# Altium schematic symbol library AnalogDevices.SchLib: 130 symbols (part 4 of 5)
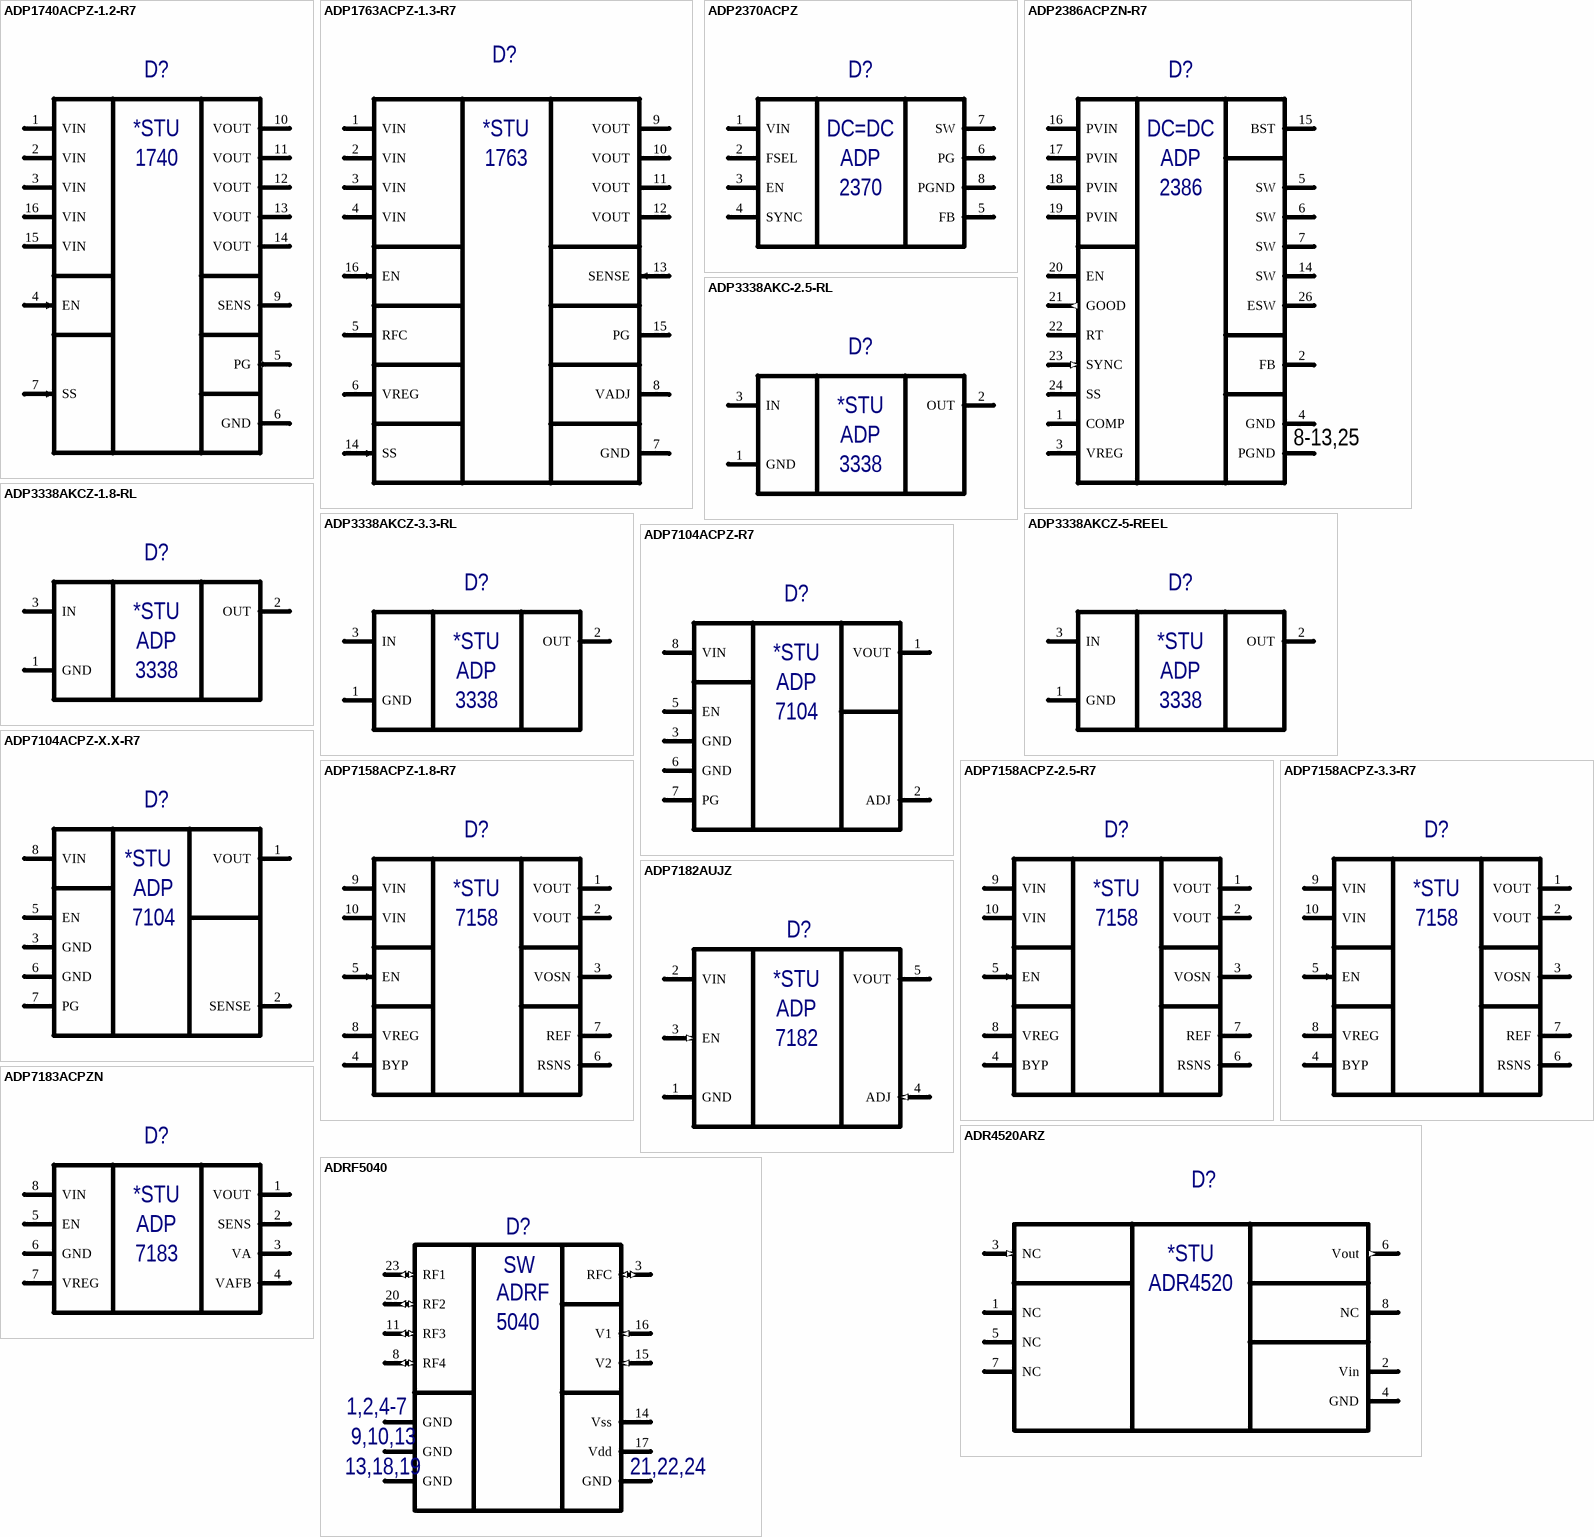
[diagram p24: symbols ADP1740ACPZ-1.2-R7 to ADRF5040]

## ADP7183ACPZN
designator D?, comment ADP7183ACPZN*.*-R7  (value not drawn)
−300 mA, Ultralow Noise, High PSRR,  Low Dropout Linear Regulator; Manufacturer: Analog Devices; Type: Микросхема; SymAuthor: Блохин В.А.; BCPId: *; Name: *; Package: CP-8-27; ManufacturerPartNumber: ADP7183ACPZN*.*-R7
footprint QFN50P200X200X60_HS-9N (Footprint not found)
pins: 1 VOUT (power) "Regulated Output Voltage", 2 SENS (power) "Sense Input", 3 VA (power) "Low Noise Reference Voltage", 4 VAFB (power) "Output Voltage Reference Feedback", 5 EN (power) "Enable", 6 GND (power), 7 VREG (power) "Regulated Input Supply", 8 VIN (power) "Regulator Input Supply", EPAD (power) hidden to GND "The exposed GND pad"
text: *STU; ADP; 7183

## ADR4520ARZ
designator D?  (value not drawn)
Ultralow Noise, High Accuracy / Voltage References; Manufacturer: Analog Devices; Type: Микросхема; ManufacturerPartNumber: ADR4520ARZ; Package: R-8
footprint SOIC127P600-8M (SOIC, 8-Leads, Body 4.9x3.9mm, Pitch 1.27mm, IPC Low Density)
pins: 1 NC, 2 Vin (power), 3 NC (in), 4 GND (power), 5 NC, 6 Vout (out), 7 NC, 8 NC
text: *STU; ADR4520

## ADRF5040
designator D?, comment ADRF5040BCPZ  (value not drawn)
igh Isolation, Silicon SP4T,  Nonreflective Switch, 9 kHz to 12.0 GHz; Manufacturer: Analog Devices, Inc.; Type: Микросхема; BCPId: *; Name: *; Package: CP-24-16; ManufacturerPartNumber: ADRF5040BCPZ
footprint QFN50P400X400X90_HS270x270-25N (QFN, 24-Leads, Body 4,00x4,00mm, Pitch 0,50mm, Thermal Pad 2,7x2,7mm, IPC Medium Density)
pins: 1 GND (power), 2 GND (power), 3 RFC (io) "RF Common Port", 4 GND (power), 5 GND (power), 6 GND (power) hidden to GND, 7 GND (power) hidden to GND, 8 RF4 (io) "RF4 Port", 9 GND (power) hidden to GND, 10 GND (power) hidden to GND, 11 RF3 (io) "RF3 Port", 12 GND (power) hidden to GND, 13 GND (power) hidden to GND, 14 Vss (power) "Negative Supply Voltage Pin", 15 V2 (in) "Control Input Pin 2", 16 V1 (in) "Control Input Pin 1", 17 Vdd (power) "Positive Supply Voltage", 18 GND (power) hidden to GND, 19 GND (power) hidden to GND, 20 RF2 (io) "RF2 Port", 21 GND (power) hidden to GND, 22 GND (power) hidden to GND, 23 RF1 (io) "RF1 Port", 24 GND (power) hidden to GND, EPAD GND (power) hidden to GND "Ground Paddle"
text: SW; ADRF; 5040; 1,2,4-7; 9,10,13; 13,18,19; 21,22,24

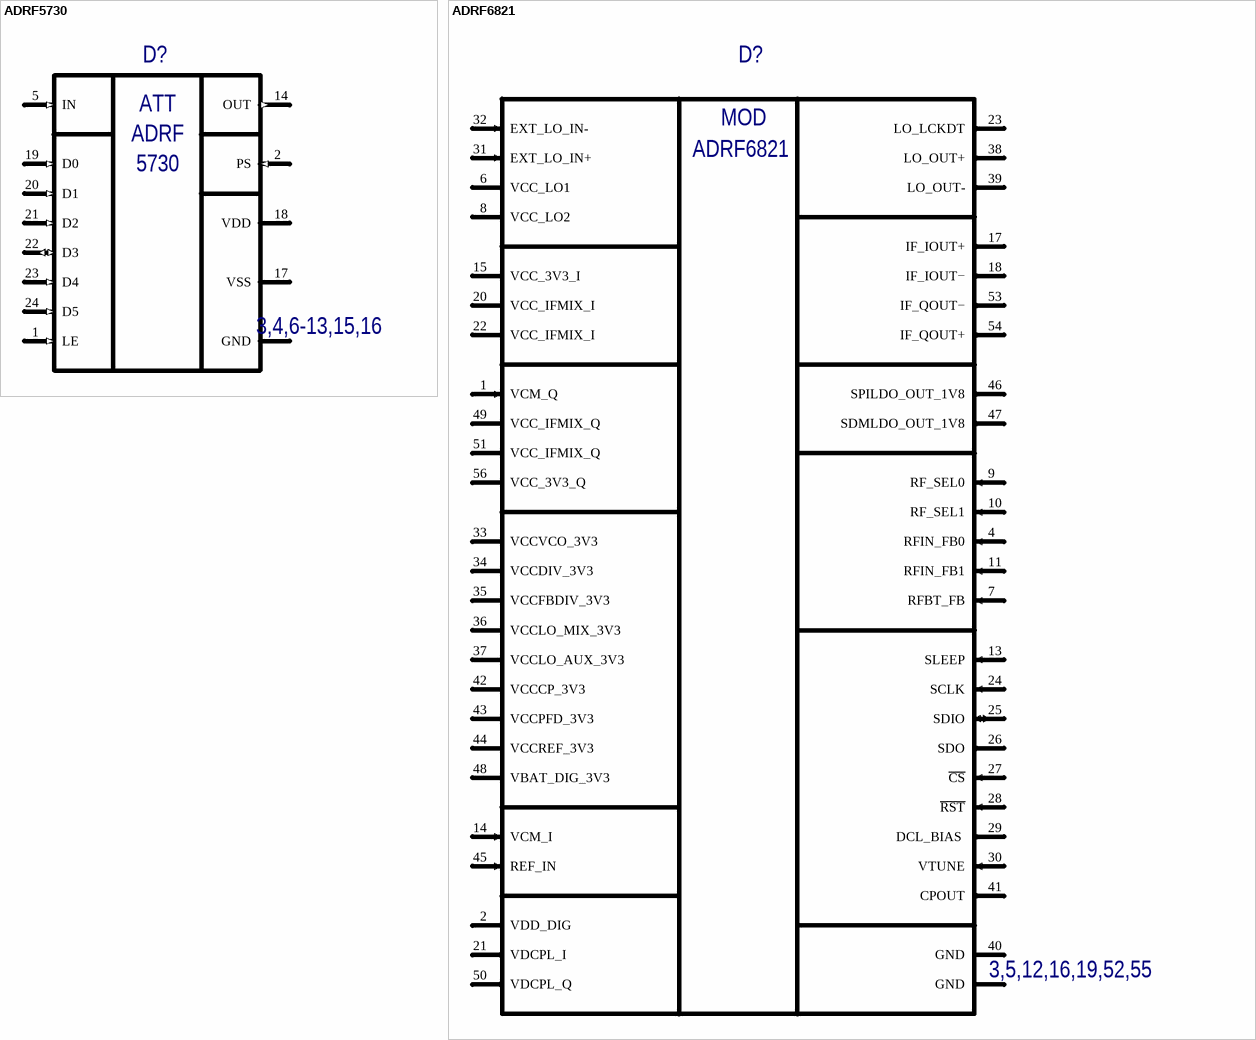
[diagram p15: symbols ADRF5730 to ADRF6821]

## ADRF5730
designator D?, comment ADRF5730BCCZN  (value not drawn)
0.5 dB LSB, 6-Bit, Silicon Digital  Attenuator, 100 MHz to 40 GHz; Manufacturer: Analog Devices; Type: Микросхема; SymAuthor: Блохин В.А.; BCPId: *; ManufacturerPartNumber: ADRF5730BCCZN; Name: *; Package: CC-24-5
footprint LGA50P400X400X075-25N (Body:4.00х4.00х0.75mm; Pitch 0.5mm; 24-Leads; Thermal Pad 2.5x2.5)
pins: 1 LE (in) "Latch Enable Input", 2 PS (in) "Parallel or Serial Control Interface Selection Input", 3 GND (power), 4 GND (power) hidden to GND, 5 IN (in) "Attenuator Input", 6 GND (power) hidden to GND, 7 GND (power) hidden to GND, 8 GND (power) hidden to GND, 9 GND (power) hidden to GND, 10 GND (power) hidden to GND, 11 GND (power) hidden to GND, 12 GND (power) hidden to GND, 13 GND (power) hidden to GND, 14 OUT (out) "Attenuator Output", 15 GND (power) hidden to GND, 16 GND (power) hidden to GND, 17 VSS (power) "Negative Supply Input", 18 VDD (power) "Positive Supply Input", 19 D0 (in) "0.5 dB Attenuator Bit", 20 D1 (in) "1 dB Attenuator Bit", 21 D2 (in) "2 dB Attenuator Bit", 22 D3 (io) "4 dB Attenuator Bit/Serial Data Output", 23 D4 (in) "8 dB Attenuator Bit/Serial Data Input", 24 D5 (in) "16 dB Attenuator Bit/Serial Clock Input", EPAD (power) hidden to GND "Exposed ground paddle must be connected to RF/DC ground"
text: ATT; ADRF; 5730; 3,4,6-13,15,16

## ADRF6821
designator D?  (value not drawn)
450 MHz to 2800 MHz, DPD RFIC with  Integrated Fractional-N PLL and VCO; Manufacturer: Analog Devices; ManufacturerPartNumber: ADRF6821ACPZ; Type: Микросхема; Package: CP-56-16
footprint QFN50P800X800X80_HS670x670-57N (QFN, 56-Leads, Body 8,00x8,00mm, Pitch 0,50mm, Thermal Pad 6,7x6,7mm, IPC Medium Density)
pins: 1 VCM_Q (in) "Q Channel VCM Input.", 2 VDD_DIG (power) "Digital VDD (1.8 V) Pin from On-Chip LDO.", 3 GND (power), 4 RFIN_FB0 (in) "RF Input 0 Single-Pole, Double-Throw (SPDT), 50 Ω Single-Ended.", 5 GND (power) hidden to GND, 6 VCC_LO1 (power) "LO Path VCC.", 7 RFBT_FB (in) "RF Input Low Frequency Balun Connection.", 8 VCC_LO2 (power) "LO Path VCC.", 9 RF_SEL0 (in) "RF Input 0 Select.", 10 RF_SEL1 (in) "RF Input 1 Select.", 11 RFIN_FB1 (in) "RF Input 1 SPDT, 50 Ω Single-Ended.", 12 GND (power) hidden to GND, 13 SLEEP (in) "Pin Controllable Fast Turn On/Off", 14 VCM_I (in) "I Channel VCM Input.", 15 VCC_3V3_I (power) "I Channel 3.3 V Supply.", 16 GND (power) hidden to GND, 17 IF_IOUT+ (out) "I Channel IF Positive Output.", 18 IF_IOUT− (out) "I Channel IF Negative Output.", 19 GND (power) hidden to GND, 20 VCC_IFMIX_I (power) "I Channel IF Amplifier VCC Supply.", 21 VDCPL_I (out) "I Channel Mixer Decoupling.", 22 VCC_IFMIX_I (power) "I Channel Mixer VCC Supply.", 23 LO_LCKDT (out) "LO Lock Detect.", 24 SCLK (in) "SPI Clock.", 25 SDIO (io) "SPI Data Input/Output in 3-Wire Mode. SPI data input in 4-wire mode", 26 SDO (out) "SPI Data Output. SDO used in 4-wire mode only.", 27 ~{CS} (in) "SPI Chip Select (N).", 28 ~{RST} (in) "Reset (Active Low).", 29 DCL_BIAS  (out) "VCO Core Bias Decouple.", 30 VTUNE (in) "V TUNE Input.", 31 EXT_LO_IN+ (in) "Positive External LO Input.", 32 EXT_LO_IN- (in) "Negative External LO Input.", 33 VCCVCO_3V3 (power) "VCC 3.3 V Supply.", 34 VCCDIV_3V3 (power) "LO Chain and Divider 3.3 V Supply.", 35 VCCFBDIV_3V3 (power) "PLL Feedback Divider 3.3 V Supply.", 36 VCCLO_MIX_3V3 (power) "LO Mixer Output Buffer 3.3 V Supply.", 37 VCCLO_AUX_3V3 (power) "LO External Output Buffer 3.3 V Supply.", 38 LO_OUT+ (out) "Positive External LO Output.", 39 LO_OUT- (out) "Negative External LO Output.", 40 GND (power) "Charge Pump Ground.", 41 CPOUT (out) "Charge Pump Output.", 42 VCCCP_3V3 (power) "Charge Pump 3.3 V Supply.", 43 VCCPFD_3V3 (power) "PFD 3.3 V Supply.", 44 VCCREF_3V3 (power) "Reference Input Buffer 3.3 V Supply.", 45 REF_IN (in) "Reference Input Buffer.", 46 SPILDO_OUT_1V8 (out) "SPI 1.8 V LDO External Decouple Output.", 47 SDMLDO_OUT_1V8 (out) "Sigma-Delta Modulator (SDM) 1.8 V LDO External Decouple Output.", 48 VBAT_DIG_3V3 (power) "SPI and SDM LDO 3.3 V Input.", 49 VCC_IFMIX_Q (power) "Q Channel Mixer VCC Supply.", 50 VDCPL_Q (out) "Q Channel Mixer Decoupling.", 51 VCC_IFMIX_Q  (power) "Q Channel IF Amplifier VCC Supply.", 53 IF_QOUT− (out) "Q Channel IF Negative Output.", 54 IF_QOUT+ (out) "Q Channel IF Positive Output.", 55 GND hidden, 56 VCC_3V3_Q (power) "Q Channel 3.3 V Supply.", EPAD hidden
text: MOD; 3,5,12,16,19,52,55

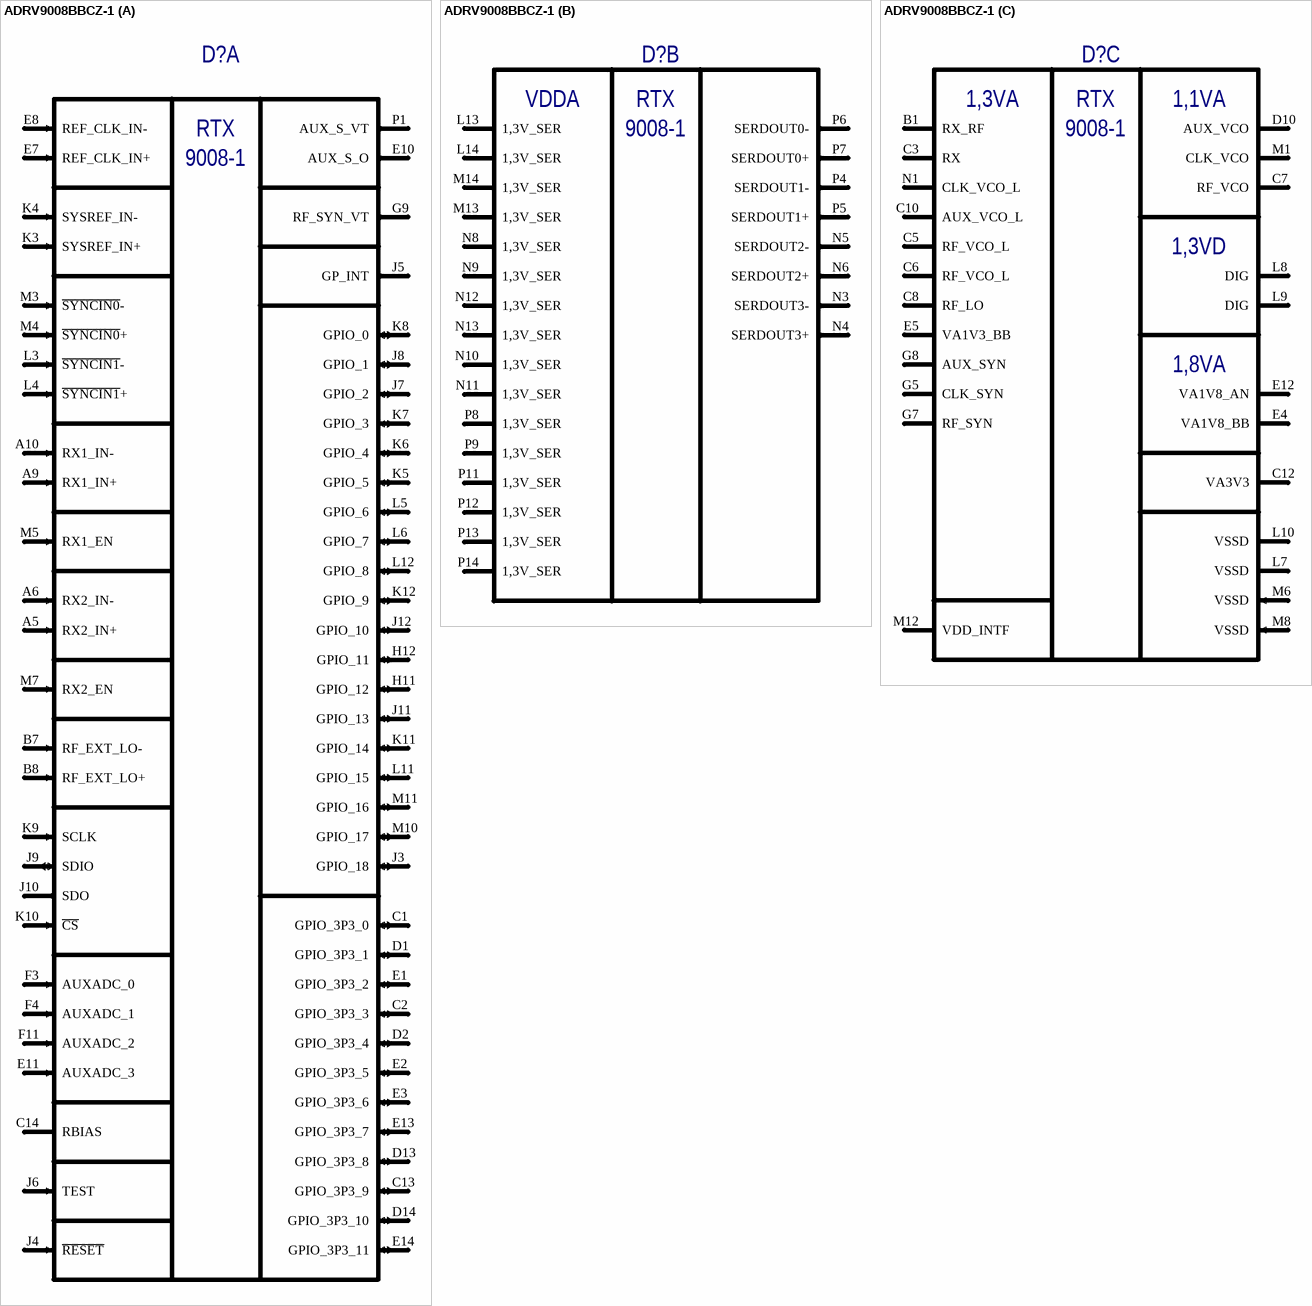
[diagram p16: symbol ADRV9008BBCZ-1]

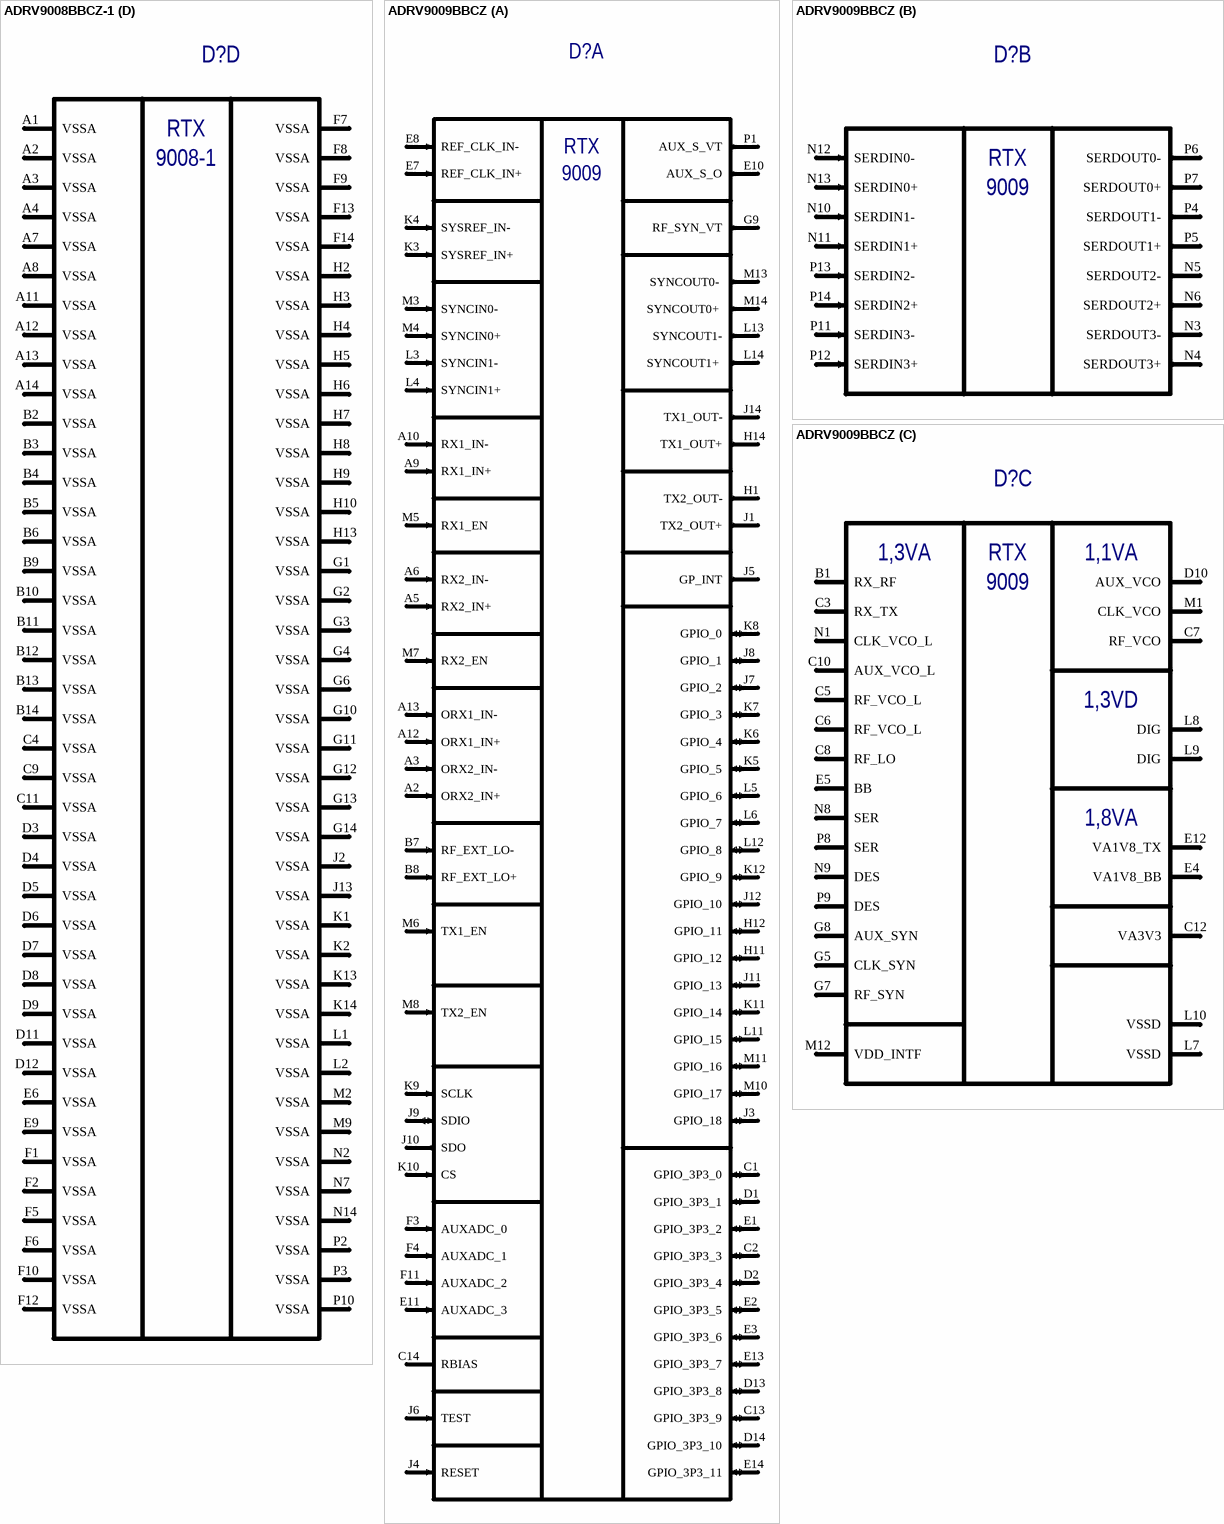
[diagram p17: symbols ADRV9008BBCZ-1 to ADRV9009BBCZ]

## ADRV9008BBCZ-1
designator D?  (value not drawn)
Integrated Dual RF Receivers; Manufacturer: Analog Devices; Type: Микросхема; SymAuthor: Ерешко П.А.; Package: BC-196-13; ManufacturerPartNumber: ADRV9008BBCZ-1
footprint BGA196C80P12X12_1200X1200X127 (BGA, 196-Leads, Body 12,00x12,00mmx1,27mm, Pitch 0,80mm)
part A pins: A5 RX2_IN+ (in) "Differential Input for Main Receiver 2.", A6 RX2_IN- (in) "Differential Input for Main Receiver 2.", A9 RX1_IN+ (in) "Differential Input for Main Receiver 1.", A10 RX1_IN- (in) "Differential Input for Main Receiver 1.", B7 RF_EXT_LO- (in) "Differential External LO Input/Output.", B8 RF_EXT_LO+ (in) "Differential External LO Input/Output.", C1 GPIO_3P3_0 (io) "GPIO Pin Referenced to 3.3 V Supply. The alternate function is AUXDAC_4.", C2 GPIO_3P3_3 (io) "GPIO Pin Referenced to 3.3 V Supply.", C13 GPIO_3P3_9 (io) "GPIO Pin Referenced to 3.3 V Supply. The alternative function is AUXDAC_9.", C14 RBIAS "Bias Resistor. Tie this pin to ground using a 14.3 kOhm resistor. This pin generates an internal current based on an external 1% resistor.", D1 GPIO_3P3_1 (io) "GPIO Pin Referenced to 3.3 V Supply. The alternative function is AUXDAC_5.", D2 GPIO_3P3_4 (io) "GPIO Pin Referenced to 3.3 V Supply. The alternative function is AUXDAC_6.", D13 GPIO_3P3_8 (io) "GPIO Pin Referenced to 3.3 V Supply. The alternative function is AUXDAC_1.", D14 GPIO_3P3_10 (io) "GPIO Pin Referenced to 3.3 V Supply. The alternative function is AUXDAC_0.", E1 GPIO_3P3_2 (io) "GPIO Pin Referenced to 3.3 V Supply.", E2 GPIO_3P3_5 (io) "GPIO Pin Referenced to 3.3 V Supply. The alternative function is AUXDAC_7.", E3 GPIO_3P3_6 (io) "GPIO Pin Referenced to 3.3 V Supply. The alternative function is AUXDAC_8.", E7 REF_CLK_IN+ (in) "Device Clock Differential Input.", E8 REF_CLK_IN- (in) "Device Clock Differential Input.", E10 AUX_S_O (out) "Auxiliary PLL Output.", E11 AUXADC_3 (in) "Auxiliary ADC Input.", E13 GPIO_3P3_7 (io) "GPIO Pin Referenced to 3.3 V Supply. The alternative function is AUXDAC_2.", E14 GPIO_3P3_11 (io) "GPIO Pin Referenced to 3.3 V Supply. The alternative function is AUXDAC_3.", F3 AUXADC_0 (in) "Auxiliary ADC Input.", F4 AUXADC_1 (in) "Auxiliary ADC Input.", F11 AUXADC_2 (in) "Auxiliary ADC Input.", G9 RF_SYN_VT (out) "RF Synthesizer VTUNE Output.", H11 GPIO_12 (io) "Digital GPIO 1.8 V to 2.5 V.", H12 GPIO_11 (io) "Digital GPIO 1.8 V to 2.5 V.", J3 GPIO_18 (io) "Digital GPIO 1.8 V to 2.5 V. The joint test action group (JTAG) function is TCLK.", J4 ~{RESET} (in) "Active Low Chip Reset.", J5 GP_INT (out) "General-Purpose Digital Interrupt Output Signal.", J6 TEST (in) "Pin Used for JTAG Boundary Scan.", J7 GPIO_2 (io) "Digital GPIO 1.8 V to 2.5 V.", J8 GPIO_1 (io) "Digital GPIO 1.8 V to 2.5 V.", J9 SDIO (io) "Serial Data Input in 4-Wire Mode or Input/Output in 3-Wire Mode.", J10 SDO (out) "Serial Data Output.", J11 GPIO_13 (io) "Digital GPIO 1.8 V to 2.5 V.", J12 GPIO_10 (io) "Digital GPIO 1.8 V to 2.5 V.", K3 SYSREF_IN+ (in) "LVDS Input.", K4 SYSREF_IN- (in) "LVDS Input.", K5 GPIO_5 (io) "Digital GPIO 1.8 V to 2.5 V. The JTAG function is TDO.", K6 GPIO_4 (io) "Digital GPIO 1.8 V to 2.5 V. The JTAG function is TRST.", K7 GPIO_3 (io) "Digital GPIO 1.8 V to 2.5 V.", K8 GPIO_0 (io) "Digital GPIO 1.8 V to 2.5 V.", K9 SCLK (in) "Serial Data Bus Clock.", K10 ~{CS} (in) "Serial Data Bus Chip Select.", K11 GPIO_14 (io) "Digital GPIO 1.8 V to 2.5 V.", K12 GPIO_9 (io) "Digital GPIO 1.8 V to 2.5 V.", L3 ~{SYNCIN1}- (in) "LVDS Input. These pins form the sync signal associated with receiver channel data on the JESD204B interface.", L4 ~{SYNCIN1}+ (in) "LVDS Input. These pins form the sync signal associated with receiver channel data on the JESD204B interface.", L5 GPIO_6 (io) "Digital GPIO 1.8 V to 2.5 V. The JTAG function is TDI.", L6 GPIO_7 (io) "Digital GPIO 1.8 V to 2.5 V. The JTAG function is TMS.", L11 GPIO_15 (io) "Digital GPIO 1.8 V to 2.5 V.", L12 GPIO_8 (io) "Digital GPIO 1.8 V to 2.5 V.", M3 ~{SYNCIN0}- (in) "LVDS Input. These pins form the sync signal associated with receiver channel data on the JESD204B interface.", M4 ~{SYNCIN0}+ (in) "LVDS Input. These pins form the sync signal associated with receiver channel data on the JESD204B interface.", M5 RX1_EN (in) "Receiver 1 Enable Pin.", M7 RX2_EN (in) "Receiver 2 Enable Pin.", M10 GPIO_17 (io) "Digital GPIO 1.8 V to 2.5 V.", M11 GPIO_16 (io) "Digital GPIO 1.8 V to 2.5 V.", P1 AUX_S_VT (out) "Auxiliary Synthesizer VTUNE Output."
part B pins: L13 1,3V_SER (power) "1.3 V Supply for JESD204B Serializer.", L14 1,3V_SER (power) "1.3 V Supply for JESD204B Serializer.", M13 1,3V_SER (power) "1.3 V Supply for JESD204B Serializer.", M14 1,3V_SER (power) "1.3 V Supply for JESD204B Serializer.", N3 SERDOUT3- (out) "RF Current Mode Logic (CML) Differential Output 3.", N4 SERDOUT3+ (out) "RF Current Mode Logic (CML) Differential Output 3.", N5 SERDOUT2- (out) "RF CML Differential Output 2.", N6 SERDOUT2+ (out) "RF CML Differential Output 2.", N8 1,3V_SER (power) "1.3 V Supply for JESD204B Serializer.", N9 1,3V_SER (power) "1.3 V Supply for JESD204B Serializer.", N10 1,3V_SER (power) "1.3 V Supply for JESD204B Serializer.", N11 1,3V_SER (power) "1.3 V Supply for JESD204B Serializer.", N12 1,3V_SER (power) "1.3 V Supply for JESD204B Serializer.", N13 1,3V_SER (power) "1.3 V Supply for JESD204B Serializer.", P4 SERDOUT1- (out) "RF CML Differential Output 1.", P5 SERDOUT1+ (out) "RF CML Differential Output 1.", P6 SERDOUT0- (out) "RF CML Differential Output 0.", P7 SERDOUT0+ (out) "RF CML Differential Output 0.", P8 1,3V_SER (power) "1.3 V Supply for JESD204B Serializer.", P9 1,3V_SER (power) "1.3 V Supply for JESD204B Serializer.", P11 1,3V_SER (power) "1.3 V Supply for JESD204B Serializer.", P12 1,3V_SER (power) "1.3 V Supply for JESD204B Serializer.", P13 1,3V_SER (power) "1.3 V Supply for JESD204B Serializer.", P14 1,3V_SER (power) "1.3 V Supply for JESD204B Serializer."
part C pins: B1 RX_RF (power) "Receiver Mixer Supply", C3 RX (power) "1.3 V Supply for Receiver Baseband Circuits and Transimpedance Amplifier (TIA) and Baseband Filters and Auxiliary DACs.", C5 RF_VCO_L (power) "RF VCO LDO Supply Inputs. Connect Pin C5 to Pin C6. Use a separate trace on the PCB back to a common supply point.", C6 RF_VCO_L (power) "RF VCO LDO Supply Inputs. Connect Pin C5 to Pin C6. Use a separate trace on the PCB back to a common supply point.", C7 RF_VCO (power) "1.1 V VCO Supply. Decouple this pin with 1 µF.", C8 RF_LO (power) "1.3 V LO Generator for the RF Synthesizer. This pin is sensitive to supply noise.", C10 AUX_VCO_L (power) "1.3 V Supply.", C12 VA3V3 (power) "General-Purpose Output Pull-Up Voltage and Auxiliary DAC Supply Voltage.", D10 AUX_VCO (power) "1.1 V VCO Supply. Decouple this pin with 1 µF.", E4 VA1V8_BB (power) "1.8 V Supply for the ADC and DAC.", E5 VA1V3_BB (power) "1.3 V Supply for the ADC and DAC and AUXADC.", E12 VA1V8_AN (power) "1.8 V Supply for Analog Circuitry", G5 CLK_SYN (power) "1.3 V Supply Input for Clock Synthesizer. Use a separate trace on the PCB back to a common supply point.", G7 RF_SYN (power) "1.3 V RF Synthesizer Supply Input. This pin is sensitive to supply noise.", G8 AUX_SYN (power) "1.3 V Auxiliary Synthesizer Supply Input.", L7 VSSD (power) "Digital VSS.", L8 DIG (power) "1.3 V Digital Core. Connect Pin L8 and Pin L9 together. Use a wide trace to connect to a separate power supply domain.", L9 DIG (power) "1.3 V Digital Core. Connect Pin L8 and Pin L9 together. Use a wide trace to connect to a separate power supply domain.", L10 VSSD (power) "Digital VSS.", M1 CLK_VCO (power) "1.1 V VCO Supply. Decouple this pin with 1 µF.", M6 VSSD (in) "Digital VSS.", M8 VSSD (in) "Digital VSS.", M12 VDD_INTF (power) "IO Interface Supply 1.8 V to 2.5 V.", N1 CLK_VCO_L (power) "1.3 V Use Separate Trace to Common Supply Point."
part D pins: A1 VSSA (power) "Analog Supply Voltage (VSS)", A2 VSSA (power) "Analog Supply Voltage (VSS)", A3 VSSA (power) "Analog Supply Voltage (VSS)", A4 VSSA (power) "Analog Supply Voltage (VSS)", A7 VSSA (power) "Analog Supply Voltage (VSS)", A8 VSSA (power) "Analog Supply Voltage (VSS)", A11 VSSA (power) "Analog Supply Voltage (VSS)", A12 VSSA (power) "Analog Supply Voltage (VSS)", A13 VSSA (power) "Analog Supply Voltage (VSS)", A14 VSSA (power) "Analog Supply Voltage (VSS)", B2 VSSA (power) "Analog Supply Voltage (VSS)", B3 VSSA (power) "Analog Supply Voltage (VSS)", B4 VSSA (power) "Analog Supply Voltage (VSS)", B5 VSSA (power) "Analog Supply Voltage (VSS)", B6 VSSA (power) "Analog Supply Voltage (VSS)", B9 VSSA (power) "Analog Supply Voltage (VSS)", B10 VSSA (power) "Analog Supply Voltage (VSS)", B11 VSSA (power) "Analog Supply Voltage (VSS)", B12 VSSA (power) "Analog Supply Voltage (VSS)", B13 VSSA (power) "Analog Supply Voltage (VSS)", B14 VSSA (power) "Analog Supply Voltage (VSS)", C4 VSSA (power) "Analog Supply Voltage (VSS)", C9 VSSA (power) "Analog Supply Voltage (VSS)", C11 VSSA (power) "Analog Supply Voltage (VSS)", D3 VSSA (power) "Analog Supply Voltage (VSS)", D4 VSSA (power) "Analog Supply Voltage (VSS)", D5 VSSA (power) "Analog Supply Voltage (VSS)", D6 VSSA (power) "Analog Supply Voltage (VSS)", D7 VSSA (power) "Analog Supply Voltage (VSS)", D8 VSSA (power) "Analog Supply Voltage (VSS)", D9 VSSA (power) "Analog Supply Voltage (VSS)", D11 VSSA (power) "Analog Supply Voltage (VSS)", D12 VSSA (power) "Analog Supply Voltage (VSS)", E6 VSSA (power) "Analog Supply Voltage (VSS)", E9 VSSA (power) "Analog Supply Voltage (VSS)", F1 VSSA (power) "Analog Supply Voltage (VSS)", F2 VSSA (power) "Analog Supply Voltage (VSS)", F5 VSSA (power) "Analog Supply Voltage (VSS)", F6 VSSA (power) "Analog Supply Voltage (VSS)", F7 VSSA (power) "Analog Supply Voltage (VSS)", F8 VSSA (power) "Analog Supply Voltage (VSS)", F9 VSSA (power) "Analog Supply Voltage (VSS)", F10 VSSA (power) "Analog Supply Voltage (VSS)", F12 VSSA (power) "Analog Supply Voltage (VSS)", F13 VSSA (power) "Analog Supply Voltage (VSS)", F14 VSSA (power) "Analog Supply Voltage (VSS)", G1 VSSA (power) "Analog Supply Voltage (VSS)", G2 VSSA (power) "Analog Supply Voltage (VSS)", G3 VSSA (power) "Analog Supply Voltage (VSS)", G4 VSSA (power) "Analog Supply Voltage (VSS)", G6 VSSA (power) "Analog Supply Voltage (VSS)", G10 VSSA (power) "Analog Supply Voltage (VSS)", G11 VSSA (power) "Analog Supply Voltage (VSS)", G12 VSSA (power) "Analog Supply Voltage (VSS)", G13 VSSA (power) "Analog Supply Voltage (VSS)", G14 VSSA (power) "Analog Supply Voltage (VSS)", H2 VSSA (power) "Analog Supply Voltage (VSS)", H3 VSSA (power) "Analog Supply Voltage (VSS)", H4 VSSA (power) "Analog Supply Voltage (VSS)", H5 VSSA (power) "Analog Supply Voltage (VSS)", H6 VSSA (power) "Analog Supply Voltage (VSS)", H7 VSSA (power) "Analog Supply Voltage (VSS)", H8 VSSA (power) "Analog Supply Voltage (VSS)", H9 VSSA (power) "Analog Supply Voltage (VSS)", H10 VSSA (power) "Analog Supply Voltage (VSS)", H13 VSSA (power) "Analog Supply Voltage (VSS)", J2 VSSA (power) "Analog Supply Voltage (VSS)", J13 VSSA (power) "Analog Supply Voltage (VSS)", K1 VSSA (power) "Analog Supply Voltage (VSS)", K2 VSSA (power) "Analog Supply Voltage (VSS)", K13 VSSA (power) "Analog Supply Voltage (VSS)", K14 VSSA (power) "Analog Supply Voltage (VSS)", L1 VSSA (power) "Analog Supply Voltage (VSS)", L2 VSSA (power) "Analog Supply Voltage (VSS)", M2 VSSA (power) "Analog Supply Voltage (VSS)", M9 VSSA (power) "Analog Supply Voltage (VSS)", N2 VSSA (power) "Analog Supply Voltage (VSS)", N7 VSSA (power) "Analog Supply Voltage (VSS)", N14 VSSA (power) "Analog Supply Voltage (VSS)", P2 VSSA (power) "Analog Supply Voltage (VSS)", P3 VSSA (power) "Analog Supply Voltage (VSS)", P10 VSSA (power) "Analog Supply Voltage (VSS)"
part A text: RTX; 9008-1
part B text: VDDA; RTX; 9008-1
part C text: 1,3VA; RTX; 1,1VA; 9008-1; 1,3VD; 1,8VA
part D text: RTX; 9008-1

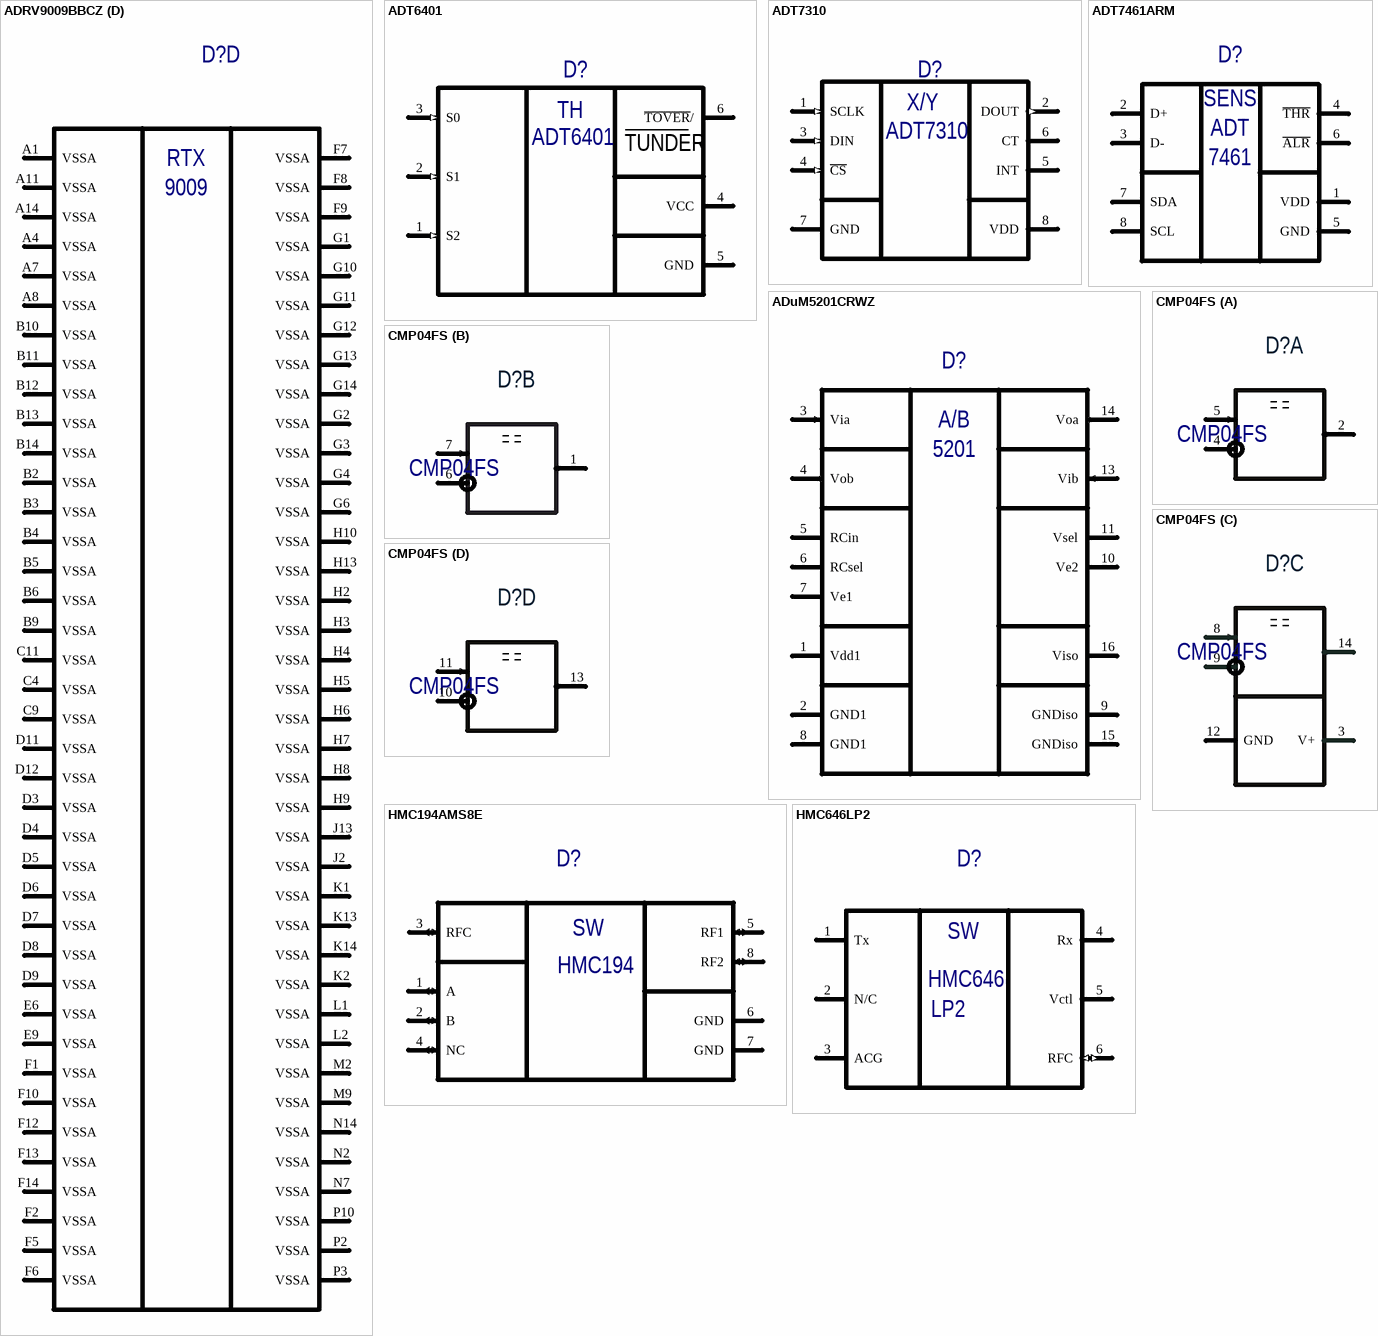
[diagram p18: symbols ADRV9009BBCZ to HMC646LP2]

## ADRV9009BBCZ
designator D?  (value not drawn)
14Vin, 4A Step-Down DC/DC µModule Regulator; Manufacturer: Analog Devices; Type: Микросхема; SymAuthor: Ерешко П.А.; Package: BC-196-13; ManufacturerPartNumber: ADRV9009BBCZ
footprint BGA196C80P12X12_1200X1200X127 (BGA, 196-Leads, Body 12,00x12,00mmx1,27mm, Pitch 0,80mm)
part A pins: A2 ORX2_IN+ (in) "Differential Input for Observation Receiver 2.", A3 ORX2_IN- (in) "Differential Input for Observation Receiver 2.", A5 RX2_IN+ (in) "Differential Input for Main Receiver 2.", A6 RX2_IN- (in) "Differential Input for Main Receiver 2.", A9 RX1_IN+ (in) "Differential Input for Main Receiver 1.", A10 RX1_IN- (in) "Differential Input for Main Receiver 1.", A12 ORX1_IN+ (in) "Differential Input for Observation Receiver 1.", A13 ORX1_IN- (in) "Differential Input for Observation Receiver 1.", B7 RF_EXT_LO- (in) "Differential External LO Input/Output.", B8 RF_EXT_LO+ (in) "Differential External LO Input/Output.", C1 GPIO_3P3_0 (io) "GPIO Pin Referenced to 3.3 V Supply. The alternate function is AUXDAC_4.", C2 GPIO_3P3_3 (io) "GPIO Pin Referenced to 3.3 V Supply.", C13 GPIO_3P3_9 (io) "GPIO Pin Referenced to 3.3 V Supply. The alternative function is AUXDAC_9.", C14 RBIAS "Bias Resistor. Tie this pin to ground using a 14.3 kOhm resistor. This pin generates an internal current based on an external 1% resistor.", D1 GPIO_3P3_1 (io) "GPIO Pin Referenced to 3.3 V Supply. The alternative function is AUXDAC_5.", D2 GPIO_3P3_4 (io) "GPIO Pin Referenced to 3.3 V Supply. The alternative function is AUXDAC_6.", D13 GPIO_3P3_8 (io) "GPIO Pin Referenced to 3.3 V Supply. The alternative function is AUXDAC_1.", D14 GPIO_3P3_10 (io) "GPIO Pin Referenced to 3.3 V Supply. The alternative function is AUXDAC_0.", E1 GPIO_3P3_2 (io) "GPIO Pin Referenced to 3.3 V Supply.", E2 GPIO_3P3_5 (io) "GPIO Pin Referenced to 3.3 V Supply. The alternative function is AUXDAC_7.", E3 GPIO_3P3_6 (io) "GPIO Pin Referenced to 3.3 V Supply. The alternative function is AUXDAC_8.", E7 REF_CLK_IN+ (in) "Device Clock Differential Input.", E8 REF_CLK_IN- (in) "Device Clock Differential Input.", E10 AUX_S_O (out) "Auxiliary PLL Output.", E11 AUXADC_3 (in) "Auxiliary ADC Input.", E13 GPIO_3P3_7 (io) "GPIO Pin Referenced to 3.3 V Supply. The alternative function is AUXDAC_2.", E14 GPIO_3P3_11 (io) "GPIO Pin Referenced to 3.3 V Supply. The alternative function is AUXDAC_3.", F3 AUXADC_0 (in) "Auxiliary ADC Input.", F4 AUXADC_1 (in) "Auxiliary ADC Input.", F11 AUXADC_2 (in) "Auxiliary ADC Input.", G9 RF_SYN_VT (out) "RF Synthesizer VTUNE Output.", H1 TX2_OUT- (out) "Transmitter 2 Output.", H11 GPIO_12 (io) "Digital GPIO 1.8 V to 2.5 V.", H12 GPIO_11 (io) "Digital GPIO 1.8 V to 2.5 V.", H14 TX1_OUT+ (out) "Transmitter 1 Output.", J1 TX2_OUT+ (out) "Transmitter 2 Output.", J3 GPIO_18 (io) "Digital GPIO 1.8 V to 2.5 V. The joint test action group (JTAG) function is TCLK.", J4 RESET (in) "Active Low Chip Reset.", J5 GP_INT (out) "General-Purpose Digital Interrupt Output Signal.", J6 TEST (in) "Pin Used for JTAG Boundary Scan.", J7 GPIO_2 (io) "Digital GPIO 1.8 V to 2.5 V.", J8 GPIO_1 (io) "Digital GPIO 1.8 V to 2.5 V.", J9 SDIO (io) "Serial Data Input in 4-Wire Mode or Input/Output in 3-Wire Mode.", J10 SDO (out) "Serial Data Output.", J11 GPIO_13 (io) "Digital GPIO 1.8 V to 2.5 V.", J12 GPIO_10 (io) "Digital GPIO 1.8 V to 2.5 V.", J14 TX1_OUT- (out) "Transmitter 1 Output.", K3 SYSREF_IN+ (in) "LVDS Input.", K4 SYSREF_IN- (in) "LVDS Input.", K5 GPIO_5 (io) "Digital GPIO 1.8 V to 2.5 V. The JTAG function is TDO.", K6 GPIO_4 (io) "Digital GPIO 1.8 V to 2.5 V. The JTAG function is TRST.", K7 GPIO_3 (io) "Digital GPIO 1.8 V to 2.5 V.", K8 GPIO_0 (io) "Digital GPIO 1.8 V to 2.5 V.", K9 SCLK (in) "Serial Data Bus Clock.", K10 CS (in) "Serial Data Bus Chip Select.", K11 GPIO_14 (io) "Digital GPIO 1.8 V to 2.5 V.", K12 GPIO_9 (io) "Digital GPIO 1.8 V to 2.5 V.", L3 SYNCIN1- (in) "LVDS Input. These pins form the sync signal associated with receiver channel data on the JESD204B interface.", L4 SYNCIN1+ (in) "LVDS Input. These pins form the sync signal associated with receiver channel data on the JESD204B interface.", L5 GPIO_6 (io) "Digital GPIO 1.8 V to 2.5 V. The JTAG function is TDI.", L6 GPIO_7 (io) "Digital GPIO 1.8 V to 2.5 V. The JTAG function is TMS.", L11 GPIO_15 (io) "Digital GPIO 1.8 V to 2.5 V.", L12 GPIO_8 (io) "Digital GPIO 1.8 V to 2.5 V.", L13 SYNCOUT1- (out) "LVDS Output. These pins form the sync signal associated with transmitter channel data on the JESD204B interface.", L14 SYNCOUT1+  (out) "LVDS Output. These pins form the sync signal associated with transmitter channel data on the JESD204B interface.", M3 SYNCIN0- (in) "LVDS Input. These pins form the sync signal associated with receiver channel data on the JESD204B interface.", M4 SYNCIN0+ (in) "LVDS Input. These pins form the sync signal associated with receiver channel data on the JESD204B interface.", M5 RX1_EN (in) "Receiver 1 Enable Pin.", M6 TX1_EN (in) "Transmitter 1 Enable Pin.", M7 RX2_EN (in) "Receiver 2 Enable Pin.", M8 TX2_EN (in) "Transmitter 2 Enable Pin.", M10 GPIO_17 (io) "Digital GPIO 1.8 V to 2.5 V.", M11 GPIO_16 (io) "Digital GPIO 1.8 V to 2.5 V.", M13 SYNCOUT0-  (out) "LVDS Output. These pins form the sync signal associated with transmitter channel data on the JESD204B interface.", M14 SYNCOUT0+  (out) "LVDS Output. These pins form the sync signal associated with transmitter channel data on the JESD204B interface.", P1 AUX_S_VT (out) "Auxiliary Synthesizer VTUNE Output."
part B pins: N3 SERDOUT3- (out) "RF Current Mode Logic (CML) Differential Output 3.", N4 SERDOUT3+ (out) "RF Current Mode Logic (CML) Differential Output 3.", N5 SERDOUT2- (out) "RF CML Differential Output 2.", N6 SERDOUT2+ (out) "RF CML Differential Output 2.", N10 SERDIN1- (in) "RF CML Differential Input 1.", N11 SERDIN1+ (in) "RF CML Differential Input 1.", N12 SERDIN0- (in) "RF CML Differential Input 0.", N13 SERDIN0+ (in) "RF CML Differential Input 0.", P4 SERDOUT1- (out) "RF CML Differential Output 1.", P5 SERDOUT1+ (out) "RF CML Differential Output 1.", P6 SERDOUT0- (out) "RF CML Differential Output 0.", P7 SERDOUT0+ (out) "RF CML Differential Output 0.", P11 SERDIN3- (in) "RF CML Differential Input 3.", P12 SERDIN3+ (in) "RF CML Differential Input 3.", P13 SERDIN2- (in) "RF CML Differential Input 2.", P14 SERDIN2+ (in) "RF CML Differential Input 2."
part C pins: B1 RX_RF (power) "Observation Receiver Supply.", C3 RX_TX (power) "1.3 V Supply for Transmitter/Receiver Baseband Circuits and Transimpedance Amplifier (TIA) and Transmitter Transconductance (GM) and Baseband Filters and Auxiliary DACs.", C5 RF_VCO_L (power) "RF VCO LDO Supply Inputs. Connect Pin C5 to Pin C6. Use a separate trace on the PCB back to a common supply point.", C6 RF_VCO_L (power) "RF VCO LDO Supply Inputs. Connect Pin C5 to Pin C6. Use a separate trace on the PCB back to a common supply point.", C7 RF_VCO (power) "1.1 V VCO Supply. Decouple this pin with 1 µF.", C8 RF_LO (power) "1.3 V LO Generator for the RF Synthesizer. This pin is sensitive to supply noise.", C10 AUX_VCO_L (power) "1.3 V Supply.", C12 VA3V3 (power) "General-Purpose Output Pull-Up Voltage and Auxiliary DAC Supply Voltage.", D10 AUX_VCO (power) "1.1 V VCO Supply. Decouple this pin with 1 µF.", E4 VA1V8_BB (power) "1.8 V Supply for the ADC and DAC.", E5 BB (power) "1.3 V Supply for the ADC and DAC and AUXADC.", E12 VA1V8_TX (power) "1.8 V Supply for Transmitter.", G5 CLK_SYN (power) "1.3 V Supply Input for Clock Synthesizer. Use a separate trace on the PCB back to a common supply point.", G7 RF_SYN (power) "1.3 V RF Synthesizer Supply Input. This pin is sensitive to supply noise.", G8 AUX_SYN (power) "1.3 V Auxiliary Synthesizer Supply Input.", L7 VSSD (power) "Digital VSS.", L8 DIG (power) "1.3 V Digital Core. Connect Pin L8 and Pin L9 together. Use a wide trace to connect to a separate power supply domain.", L9 DIG (power) "1.3 V Digital Core. Connect Pin L8 and Pin L9 together. Use a wide trace to connect to a separate power supply domain.", L10 VSSD (power) "Digital VSS.", M1 CLK_VCO (power) "1.1 V VCO Supply. Decouple this pin with 1 µF.", M12 VDD_INTF (power) "IO Interface Supply 1.8 V to 2.5 V.", N1 CLK_VCO_L (power) "1.3 V Use Separate Trace to Common Supply Point.", N8 SER (power) "1.3 V Supply for JESD204B Serializer.", N9 DES (power) "1.3 V Supply for JESD204B Deserializer.", P8 SER (power) "1.3 V Supply for JESD204B Serializer.", P9 DES (power) "1.3 V Supply for JESD204B Deserializer."
part D pins: A1 VSSA (power) "Analog Supply Voltage (VSS ).", A4 VSSA (power) "Analog Supply Voltage (VSS ).", A7 VSSA (power) "Analog Supply Voltage (VSS ).", A8 VSSA (power) "Analog Supply Voltage (VSS ).", A11 VSSA (power) "Analog Supply Voltage (VSS ).", A14 VSSA (power) "Analog Supply Voltage (VSS ).", B2 VSSA (power) "Analog Supply Voltage (VSS ).", B3 VSSA (power) "Analog Supply Voltage (VSS ).", B4 VSSA (power) "Analog Supply Voltage (VSS ).", B5 VSSA (power) "Analog Supply Voltage (VSS ).", B6 VSSA (power) "Analog Supply Voltage (VSS ).", B9 VSSA (power) "Analog Supply Voltage (VSS ).", B10 VSSA (power) "Analog Supply Voltage (VSS ).", B11 VSSA (power) "Analog Supply Voltage (VSS ).", B12 VSSA (power) "Analog Supply Voltage (VSS ).", B13 VSSA (power) "Analog Supply Voltage (VSS ).", B14 VSSA (power) "Analog Supply Voltage (VSS ).", C4 VSSA (power) "Analog Supply Voltage (VSS ).", C9 VSSA (power) "Analog Supply Voltage (VSS ).", C11 VSSA (power) "Analog Supply Voltage (VSS ).", D3 VSSA (power) "Analog Supply Voltage (VSS ).", D4 VSSA (power) "Analog Supply Voltage (VSS ).", D5 VSSA (power) "Analog Supply Voltage (VSS ).", D6 VSSA (power) "Analog Supply Voltage (VSS ).", D7 VSSA (power) "Analog Supply Voltage (VSS ).", D8 VSSA (power) "Analog Supply Voltage (VSS ).", D9 VSSA (power) "Analog Supply Voltage (VSS ).", D11 VSSA (power) "Analog Supply Voltage (VSS ).", D12 VSSA (power) "Analog Supply Voltage (VSS ).", E6 VSSA (power) "Analog Supply Voltage (VSS ).", E9 VSSA (power) "Analog Supply Voltage (VSS ).", F1 VSSA (power) "Analog Supply Voltage (VSS ).", F2 VSSA (power) "Analog Supply Voltage (VSS ).", F5 VSSA (power) "Analog Supply Voltage (VSS ).", F6 VSSA (power) "Analog Supply Voltage (VSS ).", F7 VSSA (power) "Analog Supply Voltage (VSS ).", F8 VSSA (power) "Analog Supply Voltage (VSS ).", F9 VSSA (power) "Analog Supply Voltage (VSS ).", F10 VSSA (power) "Analog Supply Voltage (VSS ).", F12 VSSA (power) "Analog Supply Voltage (VSS ).", F13 VSSA (power) "Analog Supply Voltage (VSS ).", F14 VSSA (power) "Analog Supply Voltage (VSS ).", G1 VSSA (power) "Analog Supply Voltage (VSS ).", G2 VSSA (power) "Analog Supply Voltage (VSS ).", G3 VSSA (power) "Analog Supply Voltage (VSS ).", G4 VSSA (power) "Analog Supply Voltage (VSS ).", G6 VSSA (power) "Analog Supply Voltage (VSS ).", G10 VSSA (power) "Analog Supply Voltage (VSS ).", G11 VSSA (power) "Analog Supply Voltage (VSS ).", G12 VSSA (power) "Analog Supply Voltage (VSS ).", G13 VSSA (power) "Analog Supply Voltage (VSS ).", G14 VSSA (power) "Analog Supply Voltage (VSS ).", H2 VSSA (power) "Analog Supply Voltage (VSS ).", H3 VSSA (power) "Analog Supply Voltage (VSS ).", H4 VSSA (power) "Analog Supply Voltage (VSS ).", H5 VSSA (power) "Analog Supply Voltage (VSS ).", H6 VSSA (power) "Analog Supply Voltage (VSS ).", H7 VSSA (power) "Analog Supply Voltage (VSS ).", H8 VSSA (power) "Analog Supply Voltage (VSS ).", H9 VSSA (power) "Analog Supply Voltage (VSS ).", H10 VSSA (power) "Analog Supply Voltage (VSS ).", H13 VSSA (power) "Analog Supply Voltage (VSS ).", J2 VSSA (power) "Analog Supply Voltage (VSS ).", J13 VSSA (power) "Analog Supply Voltage (VSS ).", K1 VSSA (power) "Analog Supply Voltage (VSS ).", K2 VSSA (power) "Analog Supply Voltage (VSS ).", K13 VSSA (power) "Analog Supply Voltage (VSS ).", K14 VSSA (power) "Analog Supply Voltage (VSS ).", L1 VSSA (power) "Analog Supply Voltage (VSS ).", L2 VSSA (power) "Analog Supply Voltage (VSS ).", M2 VSSA (power) "Analog Supply Voltage (VSS ).", M9 VSSA (power) "Analog Supply Voltage (VSS ).", N2 VSSA (power) "Analog Supply Voltage (VSS ).", N7 VSSA (power) "Analog Supply Voltage (VSS ).", N14 VSSA (power) "Analog Supply Voltage (VSS ).", P2 VSSA (power) "Analog Supply Voltage (VSS ).", P3 VSSA (power) "Analog Supply Voltage (VSS ).", P10 VSSA (power) "Analog Supply Voltage (VSS )."
part A text: RTX; 9009
part B text: RTX; 9009
part C text: 1,3VA; RTX; 1,1VA; 9009; 1,3VD; 1,8VA
part D text: RTX; 9009

## ADT6401
designator D?, comment ADT6401SRJZ-RL7  (value not drawn)
2.7 V to 5.5 V, Pin-Selectable  Temperature Switches in SOT-23; Manufacturer: Analog Devices, Inc.; Type: Микросхема; BCPId: *; Name: *; Package: 6-Lead SOT-23 ( RJ-6); ManufacturerPartNumber: ADT6401SRJZ-RL7
footprint SOT95P280X145-6N (SOT23, 6-Leads, Body 1,6x2,9mm, Pitch 0,95mm)
pins: 1 S2 (in) "Select Pin for Trip Point and Hysteresis Values", 2 S1 (in) "Select Pin for Trip Point and Hysteresis Values", 3 S0 (in) "Select Pin for Trip Point and Hysteresis Values", 4 VCC (power) "Supply Input", 5 GND (power), 6 ~{TOVER}/ (oc) "Open-Drain, Active Low Output"
text: TH; TUNDER

## ADT7310
designator D?, comment ADT7310TRZ  (value not drawn)
±0.5°C Accurate, 16-Bit  Digital SPI Temperature Sensor; Manufacturer: Analog Devices, Inc.; Type: Микросхема; BCPId: *; Name: *; Package: SOIC-8 (R-8); ManufacturerPartNumber: ADT7310TRZ
footprint SOIC127P600-8M (SOIC, 8-Leads, Body 4.9x3.9mm, Pitch 1.27mm, IPC Low Density)
pins: 1 SCLK (in) "Serial Clock Input", 2 DOUT (out) "Serial Data Output", 3 DIN (in) "Serial Data Input", 4 ~{CS} (in) "Chip Select Input", 5 INT (oc) "Overtemperature and Undertemperature Indicator. Logic output", 6 CT (oc) "Critical Overtemperature Indicator. Logic output", 7 GND (power), 8 VDD (power) "Positive Supply Voltage"
text: X/Y

## ADT7461ARM
designator D?  (value not drawn)
Устройство контроля температуры; Manufacturer: Analog Devices; Type: Микросхема; SymAuthor: Семенов В.С.; BCPId: *; ManufacturerPartNumber: ADT7461ARM; Package: RM-8
footprint TSOP65P490X110-8N (Shrink Small Outline; 8 Leads; Body Width 3 mm; Pitch 0.65 mm)
pins: 1 VDD "Питание", 2 D+ "Контакт положительной цепи датчика температуры", 3 D- "Контакт отрицательной цепи датчика температуры", 4 ~{THR} "Сигнал превышения уровня температуры", 5 GND "Земля", 6 ~{ALR}, 7 SDA "Шина данных последовательного интерфейса SMBus", 8 SCL "Шина тактирования последовательного интерфейса SMBus"
text: SENS; ADT; 7461

## ADuM5201CRWZ
designator D?  (value not drawn)
Dual-Channel, 2.5 kV Isolators with Integrated DC-to-DC Converter; Manufacturer: Analog Devices; Type: Микросхема; Package: 16-Lead SOIC_W; ManufacturerPartNumber: ADuM5201CRWZ
footprint SOP127P1030X265-16N (SOP, 16-Leads, Body 10,30x7,50mm, Pitch 1,27mm, IPC Medium Density)
pins: 1 Vdd1 (power) "Primary Supply Voltage, 3.0 V to 5.5 V", 2 GND1 (power) "Ground 1", 3 Via (in) "Logic Input A", 4 Vob (out) "Logic Output B", 5 RCin "Regulation Control Input", 6 RCsel "Control Input", 7 Ve1 "Data Enable Input", 8 GND1 (power) "Ground 1", 9 GNDiso (power) "Ground Reference for Isolator Side 2", 10 Ve2 "Data Enable Input", 11 Vsel "Output Voltage Selection", 12 NC hidden "No Internal Connection", 13 Vib (in) "Logic Input B", 14 Voa (out) "Logic Output A", 15 GNDiso (power) "Ground Reference for Isolator Side 2", 16 Viso (power) "Secondary Supply Voltage"
text: A/B; 5201

## CMP04FS
designator D?
CMP04FS Quad Low Power Precision Comparator; Manufacturer: Analog Devices; Type: Микросхема; SymAuthor: Москалец (Юрганов); Name: *; TU/GOST: *; BCPId: *; Package: 14-Lead SOIC, R14/SO-14; Rem: *; ManufacturerPartNumber: CMP04FS
footprint SOIC127P600X175-14N (SOIC, 14-Leads, Body 8.7x3.9mm, Pitch 1.27mm, IPC Medium Density)
part A pins: 2 OUT1 (out) "OUTPUT1", 4 IN1- (in) "INVERTING INPUT1", 5 IN1+ (in) "NONINVERTING INPUT1"
part B pins: 1 OUT2 (out) "OUTPUT2", 6 IN2- (in) "INVERTING INPUT2", 7 IN2+ (in) "NONINVTRTING INPUT2"
part C pins: 3 V+ (power) "POSITIVE SUPPLY", 8 IN3- (in) "INVERTING INPUT3", 9 IN3+ (in) "NONINVERTING INPUT3", 12 GND (power) "GROUND SUBSTRATE", 14 OUT3 (out) "OUTPUT3"
part D pins: 10 IN4- (in) "INVERTING INPUT4", 11 IN4+ (in) "NONINVERTING INPUT4", 13 OUT4 (out) "OUTPUT4"

## HMC194AMS8E
designator D?  (value not drawn)
RF Switch; Manufacturer: Analog Devices; Type: Микросхема; ManufacturerPartNumber: HMC194AMS8E
footprint TSOP65P490X110-8N (TSOP, 8-Leads, Body 3,00x3,00mm, Pitch 0,65mm, IPC Medium Density)
pins: 1 A (io), 2 B (io), 3 RFС (io), 4 NC (io), 5 RF1 (io), 6 GND (power), 7 GND (power), 8 RF2 (io)
text: SW; HMC194

## HMC646LP2
designator D?  (value not drawn)
GaAs MMIC 40W FAILSAFE  SWITCH, 0.1 - 2.1 GHz; Manufacturer: Analog Devices; ManufacturerPartNumber: HMC646LP2; Type: Микросхема; Package: DFN 2x2mm
footprint DFN200X200X100_HS-7N-85x145 (DFN, 6-Leads, Body 2,00x2,00mm, Pitch 0,65mm, Thermal Pad 0,80x1,40mm, IPC Medium Density)
pins: 1 Tx (power), 2 N/C, 3 ACG (power), 4 Rx (power), 5 Vctl (power), 6 RFC (io), EPAD GND (power) hidden to GND
text: SW; HMC646; LP2

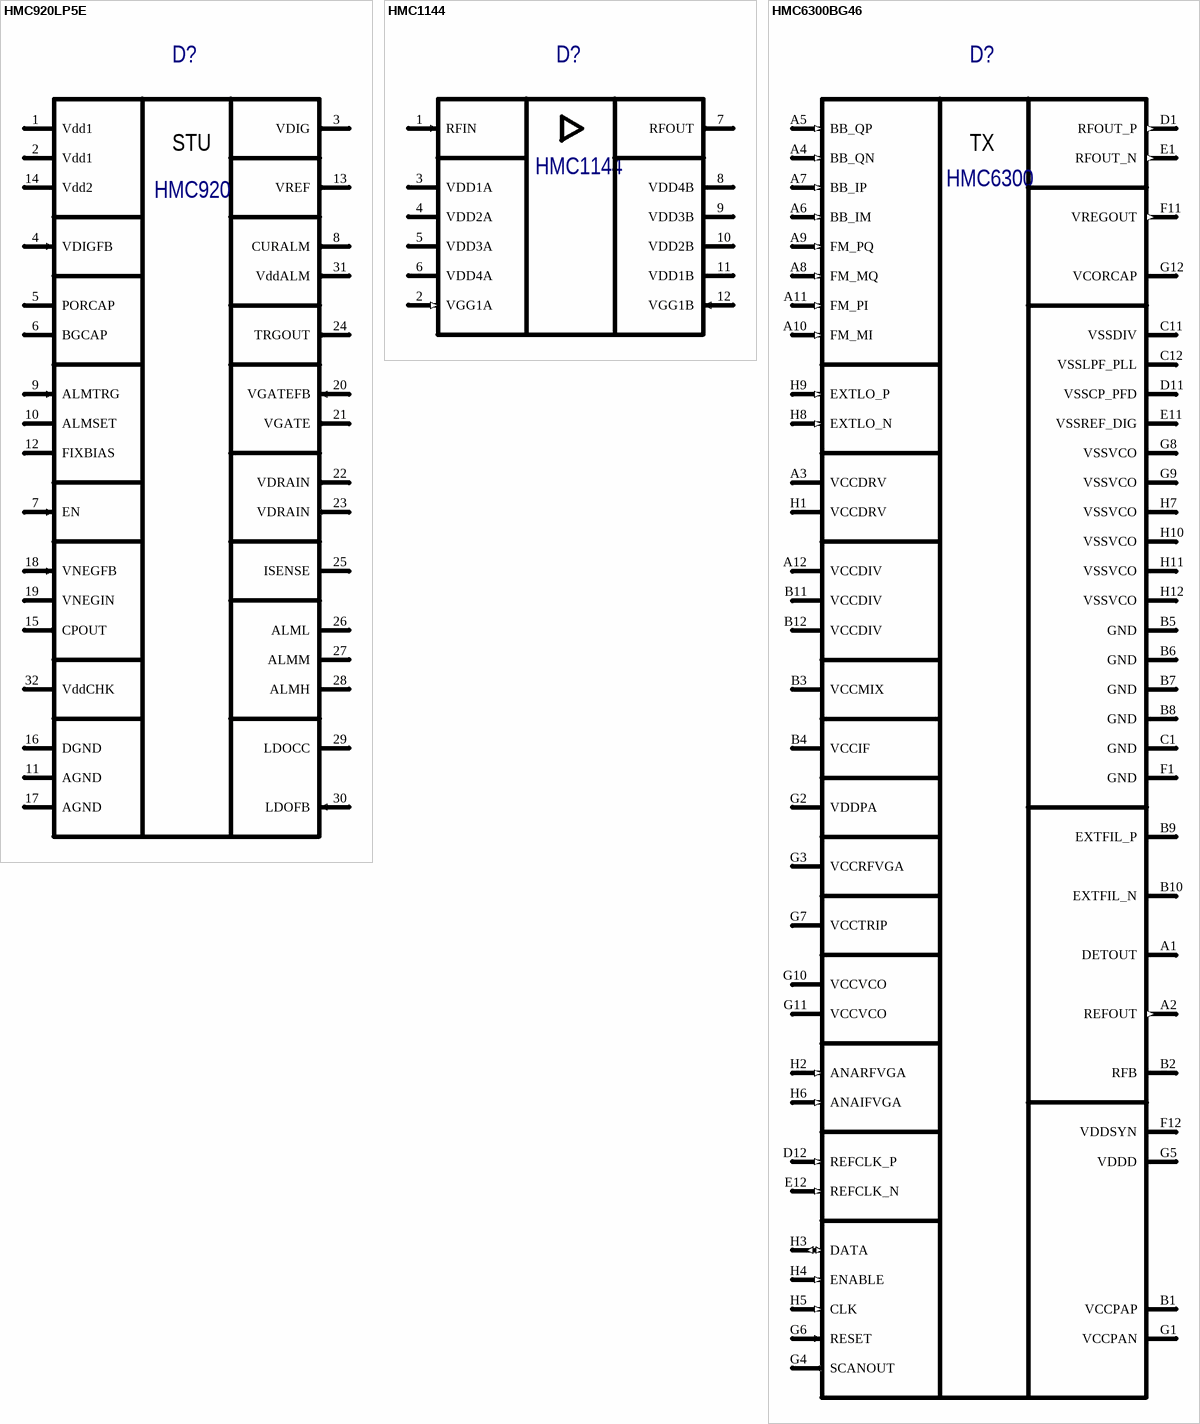
[diagram p19: symbols HMC920LP5E to HMC6300BG46]

## HMC920LP5E
designator D?  (value not drawn)
Active bias controller; Manufacturer: Analog Devices; Type: Микросхема; SymAuthor: Таран А. Н.; ManufacturerPartNumber: HMC920LP5E; Package: 5,0х5,0х0,9 мм QFN
footprint QFN50P500X500X100_HS380x380-33N (QFN, 32-Leads, Body 5,00x5,00mm, Pitch 0,50mm, Thermal Pad 3,80x3,80mm, IPC Medium Density)
pins: 1 Vdd1 (power) "Bias supply Pin.", 2 Vdd1 (power) "Bias supply Pin.", 3 VDIG (out) "3.5V LDO output for internal use.", 4 VDIGFB (in) "Feedback node for VDIG LDO.", 5 PORCAP "External capacitor for power-on-reset signal.", 6 BGCAP "External capacitor of bandgap output.", 7 EN (in) "Enable pin.", 8 CURALM (out) "Over/under current alarm.", 9 ALMTRG (in) "Dummy alarm trigger signal.", 10 ALMSET "Alarm delay duration set resistor.", 11 AGND (power) "Analog ground domain (GND).", 12 FIXBIAS "Bias current set resistor.", 13 VREF (out) "1.5V reference voltage.", 14 Vdd2 (power) "Bias supply for negative voltage generator.", 15 CPOUT (out) "Negative voltage generator charge pump output.", 16 DGND (power) "Digital ground domain (DGND).", 17 AGND (power) "Analog ground domain (GND).", 18 VNEGFB (in) "Feedback (Control) pin for Negative Voltage Generator", 19 VNEGIN (power) "Negative input to the chip.", 20 VGATEFB (in) "Control pin for VGATEFB.", 21 VGATE (out) "Gate Control pin for external amplifier.", 22 VDRAIN (out) "Drain voltage.", 23 VDRAIN (out) "Drain voltage.", 24 TRGOUT (out) "Trigger out signal.", 25 ISENSE "Bias current of the external amplifier adjust resistor pin.", 26 ALML "the threshold value for under current alarm set resistor.", 27 ALMM "The threshold value for under current alarm set resistor.", 28 ALMH "The threshold value for under current alarm set resistor.", 29 LDOCC (power) "High voltage LDO output pin.", 30 LDOFB (in) "Feedback pin of the VDRAIN LDO.", 31 VddALM (out) "Generates an active LOW signal if Vdd1 drops below 3.5V.", 32 VddCHK "Should be left floating for regular operation.", EPAD GND PAD hidden to GND "Analog ground (AGND)."
text: STU; HMC920

## HMC1144
designator D?  (value not drawn)
35 GHz to 70 GHz, GaAs, pHEMT, MMIC, Medium Power Amplifier; Manufacturer: Analog Devices; SymAuthor: Таран А. Н.; Type: Микросхема; ManufacturerPartNumber: HMC1144; Package: 12-Pad Bare Die [CHIP]
footprint C-12-2
pins: 1 RFIN (in) "RF Input.", 2 VGG1A (in) "Gate Control Pad for Alternate Bias Configuration.", 3 VDD1A (power) "Drain Bias Voltage Pads for the Amplifier.", 4 VDD2A (power) "Drain Bias Voltage Pads for the Amplifier.", 5 VDD3A (power) "Drain Bias Voltage Pads for the Amplifier.", 6 VDD4A (power) "Drain Bias Voltage Pads for the Amplifier.", 7 RFOUT (out) "RF Output.", 8 VDD4B (power) "Drain Bias Voltage Pads for Alternate Bias Configuration.", 9 VDD3B (power) "Drain Bias Voltage Pads for Alternate Bias Configuration.", 10 VDD2B (power) "Drain Bias Voltage Pads for Alternate Bias Configuration.", 11 VDD1B (power) "Drain Bias Voltage Pads for Alternate Bias Configuration.", 12 VGG1B (in) "Gate Control Pad for the Amplifier."

## HMC6300BG46
designator D?  (value not drawn)
60 GHz Millimeterwave Transmitter, 57 GHz to 64 GHz; Manufacturer: Analog Devices; SymAuthor: Таран А. Н.; Type: Микросхема; ManufacturerPartNumber: HMC6300BG46; Package: 65-Ball Wafer Level Ball Grid Array [WLBGA] (BF-65-1)
footprint BGA65C50P8X12_600X400X815 (BGA, 65-Leads, Body 6x4mmx0,815mm, Pitch 0,50mm)
pins: A1 DETOUT (power) "Detector Output (0.6 V dc to 2.6 V dc).", A2 REFOUT (out) "Detector Reference Output (0.6 V dc).", A3 VCCDRV (power) "Driver Power Supply (2.7 V dc).", A4 BB_QN (in) "Quadrature Negative Baseband Input.", A5 BB_QP (in) "Quadrature Positive Baseband Input.", A6 BB_IM (in) "In-Phase Negative Baseband Input.", A7 BB_IP (in) "In-Phase Positive Baseband Input.", A8 FM_MQ (in) "FSK Negative (Minus) Quadrature Input.", A9 FM_PQ (in) "FSK Positive Quadrature Input.", A10 FM_MI (in) "FSK Negative (Minus) In-Phase Input.", A11 FM_PI (in) "FSK Positive In-Phase Input.", A12 VCCDIV (power) "Divider Power Supply (2.7 V dc).", B1 VCCPAP (power) "Power Amplifier Power Supply (4.0 V dc).", B2 RFB "Detector Circuit Feedback.", B3 VCCMIX (power) "Mixer Power Supply (2.7 V dc).", B4 VCCIF (power) "IF Power Supply (2.7 V dc).", B5 GND (power) "Analog Ground Connect.", B6 GND (power) "Analog Ground Connect.", B7 GND (power) "Analog Ground Connect.", B8 GND (power) "Analog Ground Connect.", B9 EXTFIL_P "External PLL Filter (Positive).", B10 EXTFIL_N "External PLL Filter (Negative).", B11 VCCDIV (power) "Divider Power Supply (2.7 V dc).", B12 VCCDIV (power) "Divider Power Supply (2.7 V dc).", C1 GND (power) "Analog Ground Connect.", C11 VSSDIV (power) "Digital Ground for the Synthesizer.", C12 VSSLPF_PLL (power) "Digital Ground for Synthesizer.", D1 RFOUT_P (out) "Radio Frequency Output (Positive).", D11 VSSCP_PFD (power) "Digital Ground for Synthesizer.", D12 REFCLK_P (in) "External Reference Clock (Positive).", E1 RFOUT_N (out) "Radio Frequency Output (Negative).", E11 VSSREF_DIG (power) "Digital Ground for Synthesizer.", E12 REFCLK_N (in) "External Reference Clock (Negative).", EPAD1 GND (power) hidden to GND "GROUND AREA", EPAD2 GND (power) hidden to GND "GROUND AREA", EPAD3 GND (power) hidden to GND "GROUND AREA", EPAD4 GND (power) hidden to GND "GROUND AREA", EPAD5 GND (power) hidden to GND "GROUND AREA", F1 GND (power) "Analog Ground Connect.", F11 VREGOUT (out) "VCO Regulator Output.", F12 VDDSYN (power) "Synthesizer Power Supply (1.3 V dc).", G1 VCCPAN (power) "Power Amplifier Power Supply (4.0 V dc).", G2 VDDPA (power) "Power Amplifier Power Supply (2.7 V dc).", G3 VCCRFVGA (power) "RF VGA Power Supply (2.7 V dc).", G4 SCANOUT (out) "Serial Digital Interface Output (1.2 V CMOS).", G5 VDDD (power) "Digital Circuits Power Supply (1.3 V dc).", G6 RESET (in) "Serial Digital Interface Reset (1.2 V CMOS).", G7 VCCTRIP (power) "Tripler Power Supply (2.7 V dc).", G8 VSSVCO (power) "Digital Ground for the VCO.", G9 VSSVCO (power) "Digital Ground for the VCO.", G10 VCCVCO (power) "VCO Power Supply (2.7 V dc).", G11 VCCVCO (power) "VCO Power Supply (2.7 V dc).", G12 VCORCAP "External Capacitor Connection for the VCO Regulator.", H1 VCCDRV (power) "Driver Power Supply (2.7 V dc).", H2 ANARFVGA (in) "0.1 V to 2.4 V RF VGA Analog Control.", H3 DATA (io) "Serial Digital Interface Data (1.2 V CMOS).", H4 ENABLE (in) "Serial Digital Interface Enable (1.2 V CMOS).", H5 CLK (in) "Serial Digital Interface Clock (1.2 V CMOS).", H6 ANAIFVGA (in) "0.1 V to 2.4 V IF VGA Analog Control.", H7 VSSVCO (power) "Digital Ground for the VCO.", H8 EXTLO_N (in) "External LO (Negative) Input.", H9 EXTLO_P (in) "External LO (Positive) Input.", H10 VSSVCO (power) "Digital Ground for the VCO.", H11 VSSVCO (power) "Digital Ground for the VCO.", H12 VSSVCO (power) "Digital Ground for the VCO."
text: TX; HMC6300

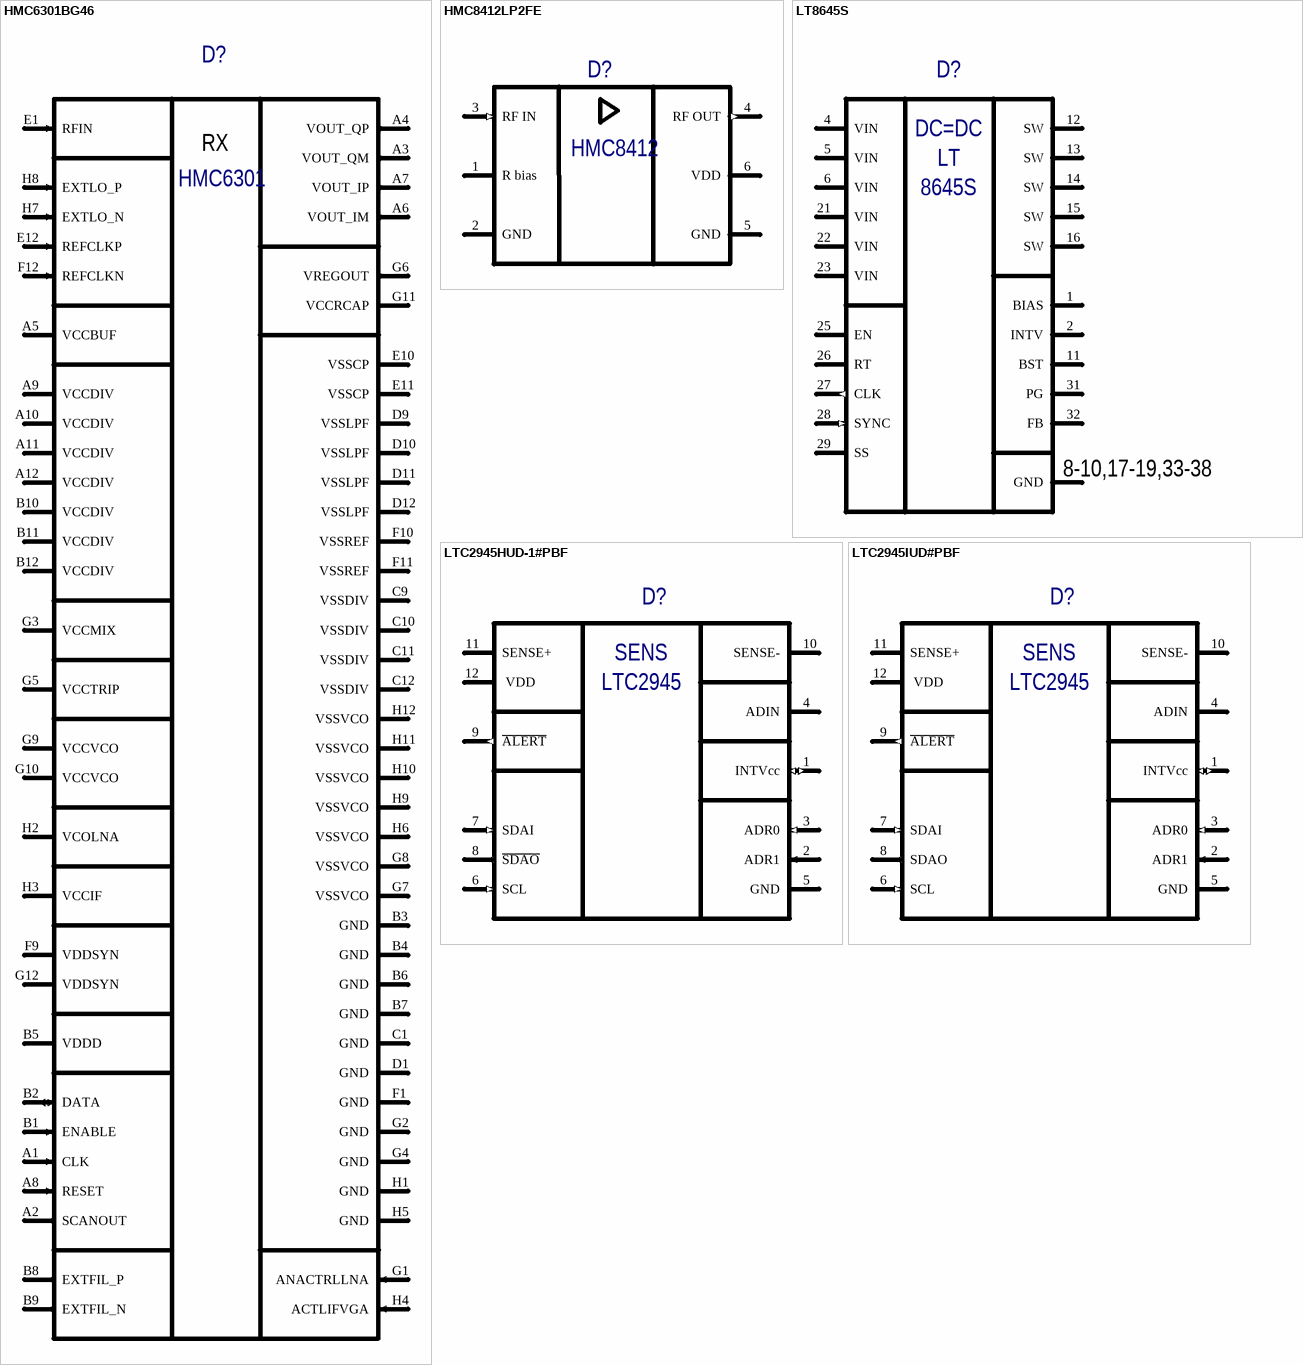
[diagram p20: symbols HMC6301BG46 to LTC2945IUD#PBF]

## HMC6301BG46
designator D?  (value not drawn)
Millimeterwave Receiver, 57 GHz to 64 GHz; Manufacturer: Analog Devices; SymAuthor: Таран А.Н.; Type: Микросхема; ManufacturerPartNumber: HMC6301BG46; Package: 75-Ball WLBGA (BF-75-1)
footprint BGA75C50P8X12_600X400X815 (BGA, 75-Leads, Body 6x4mmx0,815mm, Pitch 0,50mm)
pins: A1 CLK (in) "Serial Digital Interface Clock (1.2 V CMOS).", A2 SCANOUT (out) "Serial Digital Interface Out (1.2 V CMOS).", A3 VOUT_QM (out) "Quadrature Negative Baseband Output.", A4 VOUT_QP (out) "Quadrature Positive Baseband Output.", A5 VCCBUF (power) "Power Supply for the Buffer (2.7 V dc).", A6 VOUT_IM (out) "In-Phase Negative Baseband Output.", A7 VOUT_IP (out) "In-Phase Positive Baseband Output.", A8 RESET (in) "Serial Digital Interface Reset (1.2 V CMOS).", A9 VCCDIV (power) "Power Supply for the Divider (2.7 V dc).", A10 VCCDIV (power) "Power Supply for the Divider (2.7 V dc).", A11 VCCDIV (power) "Power Supply for the Divider (2.7 V dc).", A12 VCCDIV (power) "Power Supply for the Divider (2.7 V dc).", B1 ENABLE (in) "Serial Digital Interface Enable (1.2 V CMOS).", B2 DATA (io) "Serial Digital Interface Data (1.2 V CMOS).", B3 GND (power) "Analog Ground Connect.", B4 GND (power) "Analog Ground Connect.", B5 VDDD (power) "Power Supply for the Digital Circuits (1.3 V dc).", B6 GND (power) "Analog Ground Connect.", B7 GND (power) "Analog Ground Connect.", B8 EXTFIL_P (out) "External PLL Loop Filter (Positive).", B9 EXTFIL_N (out) "External PLL Loop Filter (Positive).", B10 VCCDIV (power) "Power Supply for the Divider (2.7 V dc).", B11 VCCDIV (power) "Power Supply for the Divider (2.7 V dc).", B12 VCCDIV (power) "Power Supply for the Divider (2.7 V dc).", C1 GND (power) "Analog Ground Connect.", C9 VSSDIV (power) "Digital Ground for the Synthesizer Divider.", C10 VSSDIV (power) "Digital Ground for the Synthesizer Divider.", C11 VSSDIV (power) "Digital Ground for the Synthesizer Divider.", C12 VSSDIV (power) "Digital Ground for the Synthesizer Divider.", D1 GND (power) "Analog Ground Connect.", D9 VSSLPF (power) "Digital Ground for the Synthesizer Low-Pass Filter.", D10 VSSLPF (power) "Digital Ground for the Synthesizer Low-Pass Filter.", D11 VSSLPF (power) "Digital Ground for the Synthesizer Low-Pass Filter.", D12 VSSLPF (power) "Digital Ground for the Synthesizer Low-Pass Filter.", E1 RFIN (in) "Radio Frequency Input.", E10 VSSCP (power) "Digital Ground for the Synthesizer Charge Pump.", E11 VSSCP (power) "Digital Ground for the Synthesizer Charge Pump.", E12 REFCLKP (in) "External Reference Clock (Positive).", EPAD1 GND (power) hidden to GND "GROUND AREA", EPAD2 GND (power) hidden to GND "GROUND AREA", EPAD3 GND (power) hidden to GND "GROUND AREA", EPAD4 GND (power) hidden to GND "GROUND AREA", EPAD5 GND (power) hidden to GND "GROUND AREA", EPAD6 GND (power) hidden to GND "GROUND AREA", EPAD7 GND (power) hidden to GND "GROUND AREA", EPAD8 GND (power) hidden to GND "GROUND AREA", F1 GND (power) "Analog Ground Connect.", F9 VDDSYN (power) "Power Supply for the Synthesizer (1.3 V dc).", F10 VSSREF (power) "Digital Ground for the Synthesizer Reference.", F11 VSSREF (power) "Digital Ground for the Synthesizer Reference.", F12 REFCLKN (in) "External Reference Clock (Negative).", G1 ANACTRLLNA (in) "Analog Gain Control for the Low Noise Amplifier.", G2 GND (power) "Analog Ground Connect.", G3 VCCMIX (power) "Power Supply for the Mixer (2.7 V dc).", G4 GND (power) "Analog Ground Connect.", G5 VCCTRIP (power) "Power Supply for the Tripler (2.7 V dc).", G6 VREGOUT (out) "Regulator Output for the Voltage Controlled Oscillator.", G7 VSSVCO (power) "Digital Ground to the Synthesizer Voltage Controlled Oscillator.", G8 VSSVCO (power) "Digital Ground to the Synthesizer Voltage Controlled Oscillator.", G9 VCCVCO (power) "Power Supply for the Voltage Controlled Oscillator (2.7 V dc).", G10 VCCVCO (power) "Power Supply for the Voltage Controlled Oscillator (2.7 V dc).", G11 VCCRCAP "External Capacitor Connection for the Voltage Controlled Oscillator Regulator.", G12 VDDSYN (power) "Power Supply for the Synthesizer (1.3 V dc).", H1 GND (power) "Analog Ground Connect.", H2 VCOLNA (power) "Power Supply for the Low Noise Amplifier (2.8 V dc).", H3 VCCIF (power) "Power Supply for the Intermediate Frequency (2.8 V dc).", H4 ACTLIFVGA (in) "Analog Gain Control for the IF Variable Gain Amplifier.", H5 GND (power) "Analog Ground Connect.", H6 VSSVCO (power) "Digital Ground to the Synthesizer Voltage Controlled Oscillator.", H7 EXTLO_N (in) "External Local Oscillator (Negative) Input.", H8 EXTLO_P (in) "External Local Oscillator (Positive) Input.", H9 VSSVCO (power) "Digital Ground to the Synthesizer Voltage Controlled Oscillator.", H10 VSSVCO (power) "Digital Ground to the Synthesizer Voltage Controlled Oscillator.", H11 VSSVCO (power) "Digital Ground to the Synthesizer Voltage Controlled Oscillator.", H12 VSSVCO (power) "Digital Ground to the Synthesizer Voltage Controlled Oscillator."
text: RX; HMC6301

## HMC8412LP2FE
designator D?  (value not drawn)
Low Noise Amplifier,  0.4 GHz to 11 GHz; Manufacturer: Analog Devices; Type: Микросхема; BCPId: *; Name: *; Package: CP-6-12; ManufacturerPartNumber: HMC8412LP2FE
footprint SON65P200X90_HS-7N (SON, 6-Leads, Body 2,00x2,00mm, Pitch 0,65mm, Thermal Pad 1,60x1mm, IPC Medium Density)
pins: 1 R bias (power) "Current Mirror Bias Resistor Pin", 2 GND (power) "Ground", 3 RF IN (in), 4 RF OUT (out) "RF OUT / Vdd", 5 GND (power), 6 VDD (power), EPAD GND (power) hidden to GND "Paddle"
text: HMC8412

## LT8645S
designator D?, comment LT8645SEV#PBF  (value not drawn)
65V, 8A Synchronous  Step-Down Silent Switcher 2; Manufacturer: Analog Devices; Type: Микросхема; SymAuthor: Блохин В.А,; BCPId: *; Name: *; Package: LQFN 6x4; ManufacturerPartNumber: LT8645SEV#PBF
footprint LQFN50P600X400X94-32N (32-Lead SMD; Body: L=6mm, W=4mm, H=0.94mm; Weight: ~2g)
pins: 1 BIAS (power) "The internal regulator", 2 INTV (power) "Internal 3.4V Regulator Bypass Pin", 3 NC hidden to GND, 4 VIN (power) "V IN pin", 5 VIN (power) "V IN pin", 6 VIN (power) "V IN pin", 7 NC hidden to GND, 8 GND (power) "Ground", 9 GND (power) hidden to GND "Ground", 10 GND (power) hidden to GND "Ground", 11 BST (power) "drive voltage", 12 SW (power) "Power Output", 13 SW (power) "Power Output", 14 SW (power) "Power Output", 15 SW (power) "Power Output", 16 SW (power) "Power Output", 17 GND (power) hidden to GND "Ground", 18 GND (power) hidden to GND "Ground", 19 GND (power) hidden to GND "Ground", 20 NC hidden to GND, 21 VIN (power) "V IN pin", 22 VIN (power) "V IN pin", 23 VIN (power) "V IN pin", 24 NC hidden to GND, 25 EN (power) "shut down", 26 RT (power) "switching frequency", 27 CLK (out) "In pulse-skipping mode", 28 SYNC (in) "operating modes", 29 SS (power) "Soft-Start", 30 GND (power) hidden to GND, 31 PG (power) "power good", 32 FB (power) "feedback", 33 EPAD (power) hidden to GND "Exposed Pad Ground", 34 EPAD (power) hidden to GND "Exposed Pad Ground", 35 EPAD (power) hidden to GND "Exposed Pad Ground", 36 EPAD (power) hidden to GND "Exposed Pad Ground", 37 EPAD (power) hidden to GND "Exposed Pad Ground", 38 EPAD (power) hidden to GND "Exposed Pad Ground", 39 GND (power) hidden to GND, 40 GND (power) hidden to GND, 41 GND (power) hidden to GND, 42 GND (power) hidden to GND
text: DC=DC; LT; 8645S; 8-10,17-19,33-38